# Altium integrated library Microchip DSC 16-Bit dsPIC30F.IntLib: 267 symbols (part 3 of 12)
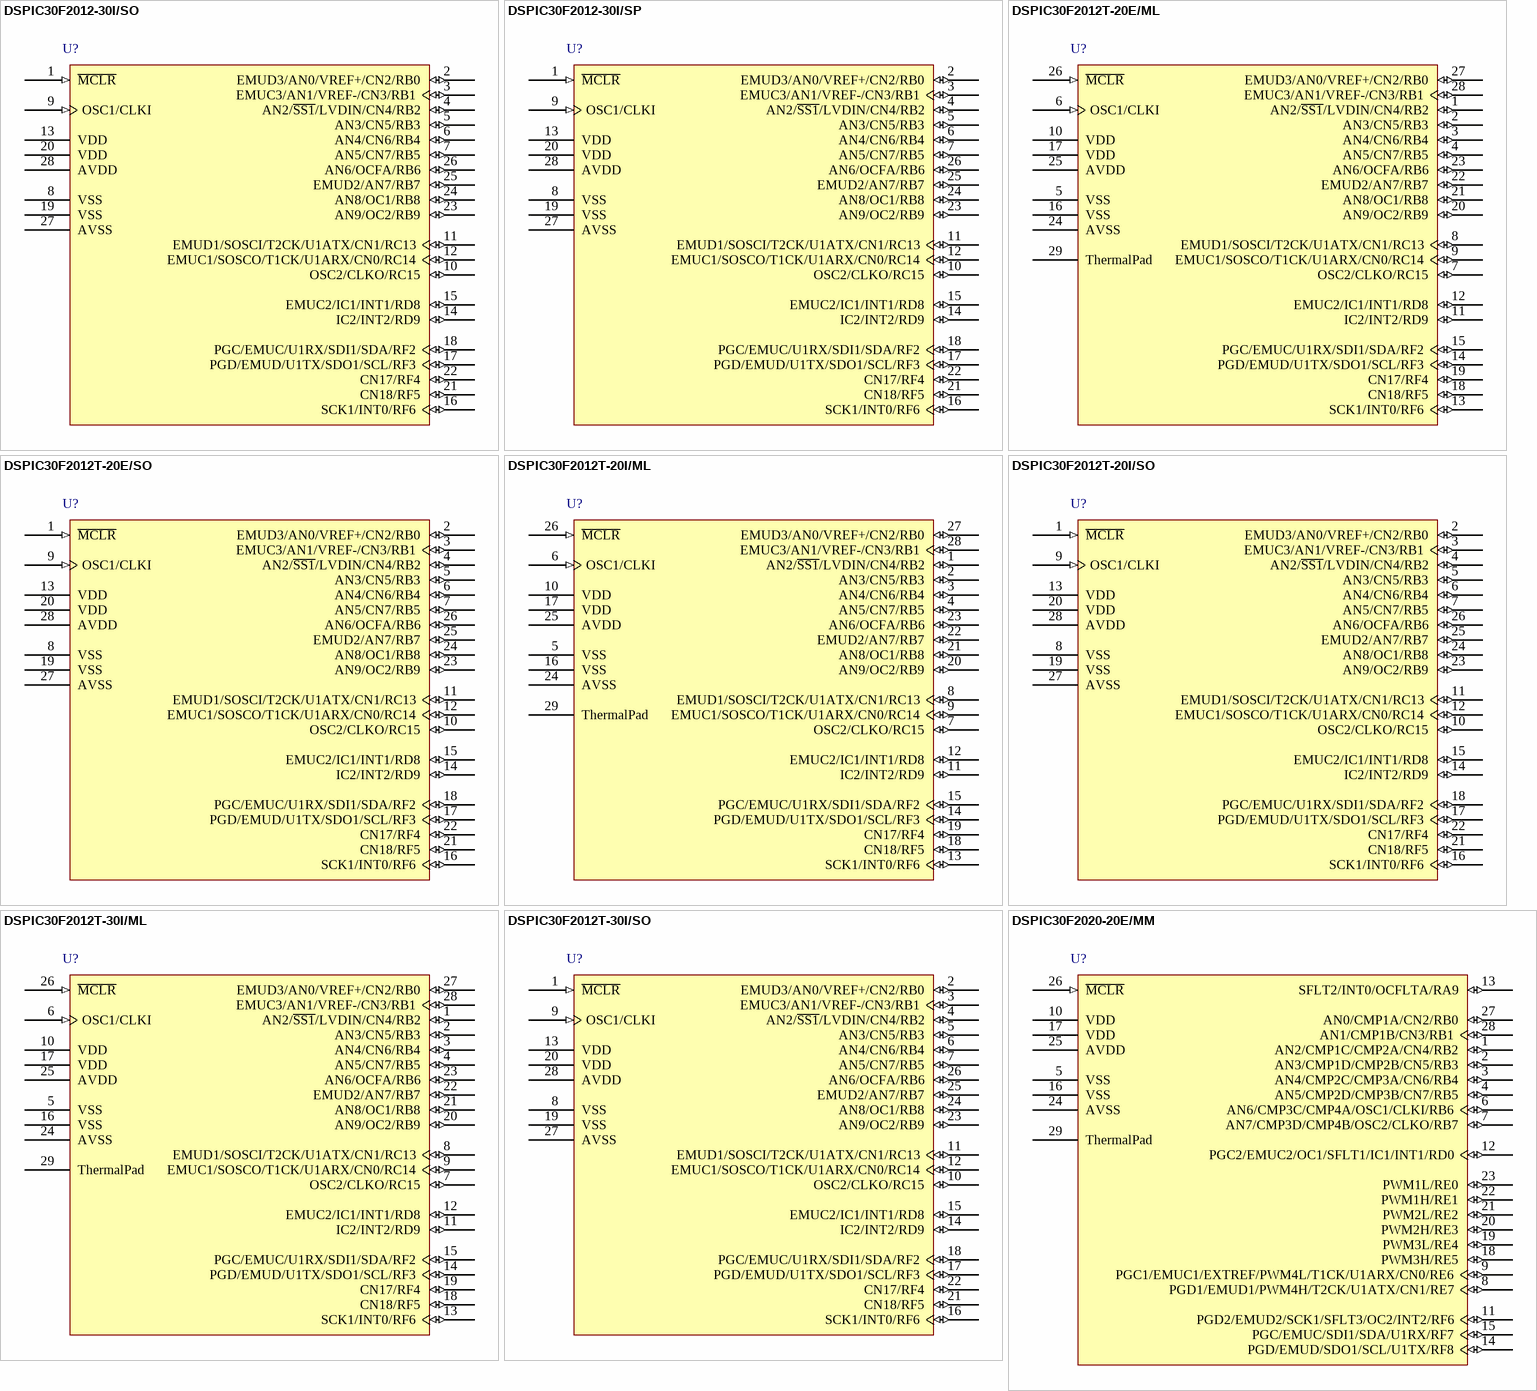
[diagram p45: symbols DSPIC30F2012-30I/SO to DSPIC30F2020-20E/MM]

## DSPIC30F2020-20E/MM
designator U?
High-Performance 16-bit Digital Signal Controller with Switch Mode Power Supply, 12 KB Flash, 512 Byte SRAM, 28-Pin QFN, Extended High Temperature; Published: 29-Jan-2009; DatasheetVersion: revC, Nov-2006; PackageVersion: revBB, Aug-2009; PackageReference: QFNS-MM28; Publisher: Altium Limited; PackageDescription: 28-Lead Plastic Quad Flat, No Lead Package (MM) - 6x6x0.9 mm Body [QFN-S] with 0.40 mm Contact Length; Supplier 1: Digi-Key; Supplier Part Number 1: DSPIC30F2020-20E/MM-ND; ComponentLink1Description: Datasheet; ComponentLink1URL: http://ww1.microchip.com/downloads/en/DeviceDoc/70178C.pdf; ComponentLink2Description: Packaging Specification; ComponentLink2URL: http://www.microchip.com/stellent/groups/techpub_sg/documents/packagingspec/en012702.pdf; ComponentLink3Description: Microchip.com Home; ComponentLink3URL: http://www.microchip.com/
footprint QFNS-MM28_N (QFN, 28-Leads, Body 6x6 mm, Pitch 0.65mm, IPC Medium Density)
footprint QFNS-MM28_L (QFN, 28-Leads, Body 6x6 mm, Pitch 0.65mm, IPC High Density)
footprint QFNS-MM28_M (QFN, 28-Leads, Body 6x6 mm, Pitch 0.65mm, IPC Low Density)
pins: 1 AN2/CMP1C/CMP2A/CN4/RB2 (io), 2 AN3/CMP1D/CMP2B/CN5/RB3 (io), 3 AN4/CMP2C/CMP3A/CN6/RB4 (io), 4 AN5/CMP2D/CMP3B/CN7/RB5 (io), 5 VSS (power), 6 AN6/CMP3C/CMP4A/OSC1/CLKI/RB6 (io), 7 AN7/CMP3D/CMP4B/OSC2/CLKO/RB7 (io), 8 PGD1/EMUD1/PWM4H/T2CK/U1ATX/CN1/RE7 (io), 9 PGC1/EMUC1/EXTREF/PWM4L/T1CK/U1ARX/CN0/RE6 (io), 10 VDD (power), 11 PGD2/EMUD2/SCK1/SFLT3/OC2/INT2/RF6 (io), 12 PGC2/EMUC2/OC1/SFLT1/IC1/INT1/RD0 (io), 13 SFLT2/INT0/OCFLTA/RA9 (io), 14 PGD/EMUD/SDO1/SCL/U1TX/RF8 (io), 15 PGC/EMUC/SDI1/SDA/U1RX/RF7 (io), 16 VSS (power), 17 VDD (power), 18 PWM3H/RE5 (io), 19 PWM3L/RE4 (io), 20 PWM2H/RE3 (io), 21 PWM2L/RE2 (io), 22 PWM1H/RE1 (io), 23 PWM1L/RE0 (io), 24 AVSS (power), 25 AVDD (power), 26 ~{MCLR} (in), 27 AN0/CMP1A/CN2/RB0 (io), 28 AN1/CMP1B/CN3/RB1 (io), 29 ThermalPad

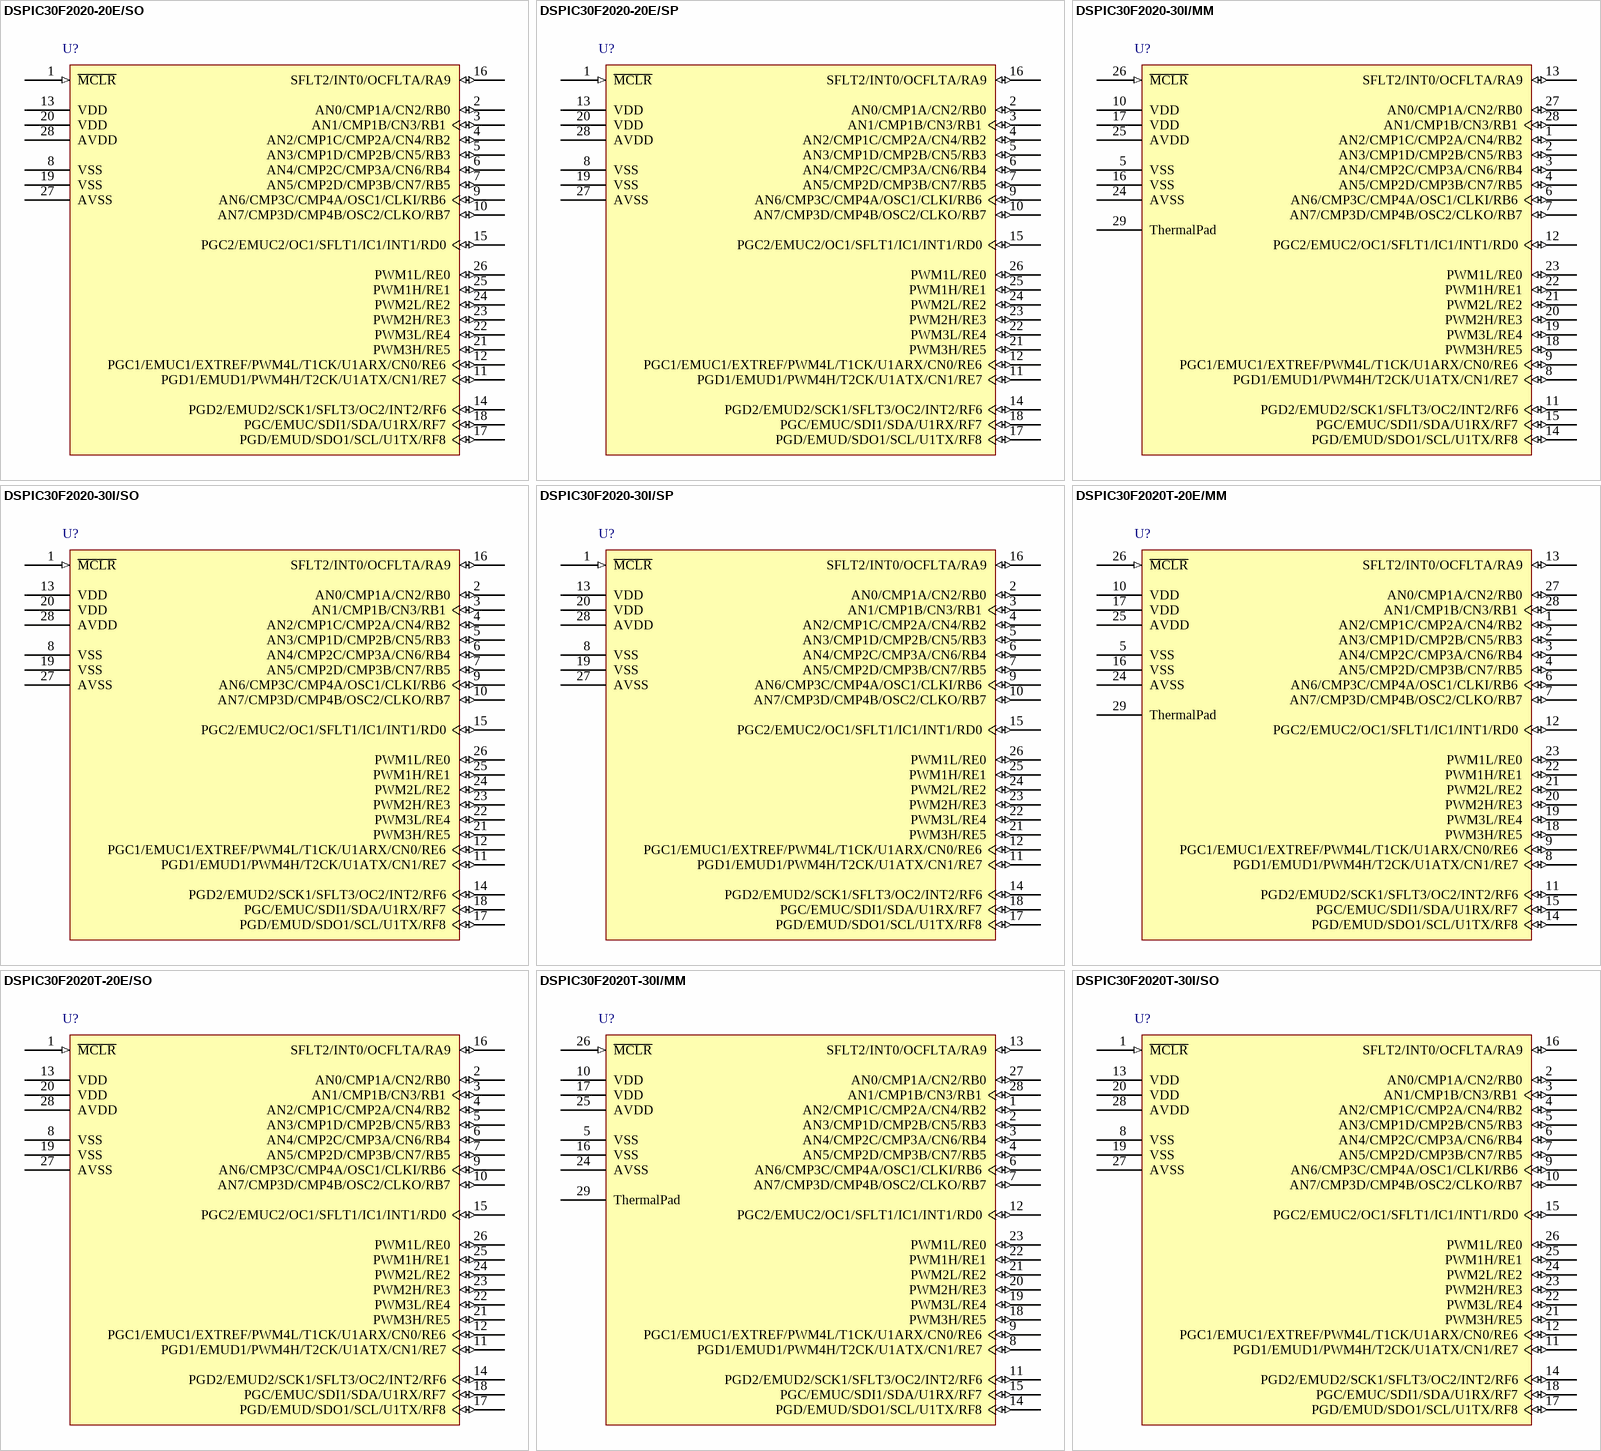
[diagram p6: symbols DSPIC30F2020-20E/SO to DSPIC30F2020T-30I/SO]

## DSPIC30F2020-20E/SO
designator U?
High-Performance 16-bit Digital Signal Controller with Switch Mode Power Supply, 12 KB Flash, 512 Byte SRAM, 28-Pin SOIC, Extended High Temperature; Published: 29-Jan-2009; DatasheetVersion: revC, Nov-2006; PackageVersion: revBB, Aug-2009; PackageReference: SOIC-SO28; Publisher: Altium Limited; PackageDescription: 28-Lead Plastic Small Outline (SO) - Wide 7.50mm Body [SOIC]; Supplier 1: Digi-Key; Supplier Part Number 1: DSPIC30F2020-20E/SO-ND; Supplier 2: Farnell; Supplier Part Number 2: 1818695; Code_JEDEC: MS-013; ComponentLink1Description: Datasheet; ComponentLink1URL: http://ww1.microchip.com/downloads/en/DeviceDoc/70178C.pdf; ComponentLink2Description: Packaging Specification; ComponentLink2URL: http://www.microchip.com/stellent/groups/techpub_sg/documents/packagingspec/en012702.pdf; ComponentLink3Description: Microchip.com Home; ComponentLink3URL: http://www.microchip.com/
footprint SOIC-SO28_N (SOIC, 28-Leads, Body 17.9x7.5mm, Pitch 1.27mm, IPC Medium Density)
footprint SOIC-SO28_L (SOIC, 28-Leads, Body 17.9x7.5mm, Pitch 1.27mm, IPC High Density)
footprint SOIC-SO28_M (SOIC, 28-Leads, Body 17.9x7.5mm, Pitch 1.27mm, IPC Low Density)
pins: 1 ~{MCLR} (in), 2 AN0/CMP1A/CN2/RB0 (io), 3 AN1/CMP1B/CN3/RB1 (io), 4 AN2/CMP1C/CMP2A/CN4/RB2 (io), 5 AN3/CMP1D/CMP2B/CN5/RB3 (io), 6 AN4/CMP2C/CMP3A/CN6/RB4 (io), 7 AN5/CMP2D/CMP3B/CN7/RB5 (io), 8 VSS (power), 9 AN6/CMP3C/CMP4A/OSC1/CLKI/RB6 (io), 10 AN7/CMP3D/CMP4B/OSC2/CLKO/RB7 (io), 11 PGD1/EMUD1/PWM4H/T2CK/U1ATX/CN1/RE7 (io), 12 PGC1/EMUC1/EXTREF/PWM4L/T1CK/U1ARX/CN0/RE6 (io), 13 VDD (power), 14 PGD2/EMUD2/SCK1/SFLT3/OC2/INT2/RF6 (io), 15 PGC2/EMUC2/OC1/SFLT1/IC1/INT1/RD0 (io), 16 SFLT2/INT0/OCFLTA/RA9 (io), 17 PGD/EMUD/SDO1/SCL/U1TX/RF8 (io), 18 PGC/EMUC/SDI1/SDA/U1RX/RF7 (io), 19 VSS (power), 20 VDD (power), 21 PWM3H/RE5 (io), 22 PWM3L/RE4 (io), 23 PWM2H/RE3 (io), 24 PWM2L/RE2 (io), 25 PWM1H/RE1 (io), 26 PWM1L/RE0 (io), 27 AVSS (power), 28 AVDD (power)

## DSPIC30F2020-20E/SP
designator U?
High-Performance 16-bit Digital Signal Controller with Switch Mode Power Supply, 12 KB Flash, 512 Byte SRAM, 28-Pin SPDIP, Extended High Temperature; Published: 29-Jan-2009; DatasheetVersion: revC, Nov-2006; PackageVersion: revBB, Aug-2009; PackageReference: SPDIP300-SP28; Publisher: Altium Limited; PackageDescription: 28-Lead Skinny Plastic Dual In-Line (SP) - 300 mil Body [SPDIP]; Supplier 1: Digi-Key; Supplier Part Number 1: DSPIC30F2020-20E/SP-ND; Supplier 2: Farnell; Supplier Part Number 2: 1531996; ComponentLink1Description: Datasheet; ComponentLink1URL: http://ww1.microchip.com/downloads/en/DeviceDoc/70178C.pdf; ComponentLink2Description: Packaging Specification; ComponentLink2URL: http://www.microchip.com/stellent/groups/techpub_sg/documents/packagingspec/en012702.pdf; ComponentLink3Description: Microchip.com Home; ComponentLink3URL: http://www.microchip.com/
footprint SPDIP300-SP28 (DIP, 28-Leads, Row Spacing 7.62mm, Pitch 2.54mm, Body 34.9x6.8mm)
pins: 1 ~{MCLR} (in), 2 AN0/CMP1A/CN2/RB0 (io), 3 AN1/CMP1B/CN3/RB1 (io), 4 AN2/CMP1C/CMP2A/CN4/RB2 (io), 5 AN3/CMP1D/CMP2B/CN5/RB3 (io), 6 AN4/CMP2C/CMP3A/CN6/RB4 (io), 7 AN5/CMP2D/CMP3B/CN7/RB5 (io), 8 VSS (power), 9 AN6/CMP3C/CMP4A/OSC1/CLKI/RB6 (io), 10 AN7/CMP3D/CMP4B/OSC2/CLKO/RB7 (io), 11 PGD1/EMUD1/PWM4H/T2CK/U1ATX/CN1/RE7 (io), 12 PGC1/EMUC1/EXTREF/PWM4L/T1CK/U1ARX/CN0/RE6 (io), 13 VDD (power), 14 PGD2/EMUD2/SCK1/SFLT3/OC2/INT2/RF6 (io), 15 PGC2/EMUC2/OC1/SFLT1/IC1/INT1/RD0 (io), 16 SFLT2/INT0/OCFLTA/RA9 (io), 17 PGD/EMUD/SDO1/SCL/U1TX/RF8 (io), 18 PGC/EMUC/SDI1/SDA/U1RX/RF7 (io), 19 VSS (power), 20 VDD (power), 21 PWM3H/RE5 (io), 22 PWM3L/RE4 (io), 23 PWM2H/RE3 (io), 24 PWM2L/RE2 (io), 25 PWM1H/RE1 (io), 26 PWM1L/RE0 (io), 27 AVSS (power), 28 AVDD (power)

## DSPIC30F2020-30I/MM
designator U?
High-Performance 16-bit Digital Signal Controller with Switch Mode Power Supply, 12 KB Flash, 512 Byte SRAM, 28-Pin QFN, Industrial Temperature; Published: 29-Jan-2009; DatasheetVersion: revC, Nov-2006; PackageVersion: revBB, Aug-2009; PackageReference: QFNS-MM28; Publisher: Altium Limited; PackageDescription: 28-Lead Plastic Quad Flat, No Lead Package (MM) - 6x6x0.9 mm Body [QFN-S] with 0.40 mm Contact Length; Supplier 1: Digi-Key; Supplier Part Number 1: DSPIC30F2020-30I/MM-ND; ComponentLink1Description: Datasheet; ComponentLink1URL: http://ww1.microchip.com/downloads/en/DeviceDoc/70178C.pdf; ComponentLink2Description: Packaging Specification; ComponentLink2URL: http://www.microchip.com/stellent/groups/techpub_sg/documents/packagingspec/en012702.pdf; ComponentLink3Description: Microchip.com Home; ComponentLink3URL: http://www.microchip.com/
footprint QFNS-MM28_N (QFN, 28-Leads, Body 6x6 mm, Pitch 0.65mm, IPC Medium Density)
footprint QFNS-MM28_L (QFN, 28-Leads, Body 6x6 mm, Pitch 0.65mm, IPC High Density)
footprint QFNS-MM28_M (QFN, 28-Leads, Body 6x6 mm, Pitch 0.65mm, IPC Low Density)
pins: 1 AN2/CMP1C/CMP2A/CN4/RB2 (io), 2 AN3/CMP1D/CMP2B/CN5/RB3 (io), 3 AN4/CMP2C/CMP3A/CN6/RB4 (io), 4 AN5/CMP2D/CMP3B/CN7/RB5 (io), 5 VSS (power), 6 AN6/CMP3C/CMP4A/OSC1/CLKI/RB6 (io), 7 AN7/CMP3D/CMP4B/OSC2/CLKO/RB7 (io), 8 PGD1/EMUD1/PWM4H/T2CK/U1ATX/CN1/RE7 (io), 9 PGC1/EMUC1/EXTREF/PWM4L/T1CK/U1ARX/CN0/RE6 (io), 10 VDD (power), 11 PGD2/EMUD2/SCK1/SFLT3/OC2/INT2/RF6 (io), 12 PGC2/EMUC2/OC1/SFLT1/IC1/INT1/RD0 (io), 13 SFLT2/INT0/OCFLTA/RA9 (io), 14 PGD/EMUD/SDO1/SCL/U1TX/RF8 (io), 15 PGC/EMUC/SDI1/SDA/U1RX/RF7 (io), 16 VSS (power), 17 VDD (power), 18 PWM3H/RE5 (io), 19 PWM3L/RE4 (io), 20 PWM2H/RE3 (io), 21 PWM2L/RE2 (io), 22 PWM1H/RE1 (io), 23 PWM1L/RE0 (io), 24 AVSS (power), 25 AVDD (power), 26 ~{MCLR} (in), 27 AN0/CMP1A/CN2/RB0 (io), 28 AN1/CMP1B/CN3/RB1 (io), 29 ThermalPad

## DSPIC30F2020-30I/SO
designator U?
High-Performance 16-bit Digital Signal Controller with Switch Mode Power Supply, 12 KB Flash, 512 Byte SRAM, 28-Pin SOIC, Industrial Temperature; Published: 29-Jan-2009; DatasheetVersion: revC, Nov-2006; PackageVersion: revBB, Aug-2009; PackageReference: SOIC-SO28; Publisher: Altium Limited; PackageDescription: 28-Lead Plastic Small Outline (SO) - Wide 7.50mm Body [SOIC]; Supplier 1: Digi-Key; Supplier Part Number 1: DSPIC30F2020-30I/SO-ND; Supplier 2: Farnell; Supplier Part Number 2: 1332026; Code_JEDEC: MS-013; ComponentLink1Description: Datasheet; ComponentLink1URL: http://ww1.microchip.com/downloads/en/DeviceDoc/70178C.pdf; ComponentLink2Description: Packaging Specification; ComponentLink2URL: http://www.microchip.com/stellent/groups/techpub_sg/documents/packagingspec/en012702.pdf; ComponentLink3Description: Microchip.com Home; ComponentLink3URL: http://www.microchip.com/
footprint SOIC-SO28_N (SOIC, 28-Leads, Body 17.9x7.5mm, Pitch 1.27mm, IPC Medium Density)
footprint SOIC-SO28_L (SOIC, 28-Leads, Body 17.9x7.5mm, Pitch 1.27mm, IPC High Density)
footprint SOIC-SO28_M (SOIC, 28-Leads, Body 17.9x7.5mm, Pitch 1.27mm, IPC Low Density)
pins: 1 ~{MCLR} (in), 2 AN0/CMP1A/CN2/RB0 (io), 3 AN1/CMP1B/CN3/RB1 (io), 4 AN2/CMP1C/CMP2A/CN4/RB2 (io), 5 AN3/CMP1D/CMP2B/CN5/RB3 (io), 6 AN4/CMP2C/CMP3A/CN6/RB4 (io), 7 AN5/CMP2D/CMP3B/CN7/RB5 (io), 8 VSS (power), 9 AN6/CMP3C/CMP4A/OSC1/CLKI/RB6 (io), 10 AN7/CMP3D/CMP4B/OSC2/CLKO/RB7 (io), 11 PGD1/EMUD1/PWM4H/T2CK/U1ATX/CN1/RE7 (io), 12 PGC1/EMUC1/EXTREF/PWM4L/T1CK/U1ARX/CN0/RE6 (io), 13 VDD (power), 14 PGD2/EMUD2/SCK1/SFLT3/OC2/INT2/RF6 (io), 15 PGC2/EMUC2/OC1/SFLT1/IC1/INT1/RD0 (io), 16 SFLT2/INT0/OCFLTA/RA9 (io), 17 PGD/EMUD/SDO1/SCL/U1TX/RF8 (io), 18 PGC/EMUC/SDI1/SDA/U1RX/RF7 (io), 19 VSS (power), 20 VDD (power), 21 PWM3H/RE5 (io), 22 PWM3L/RE4 (io), 23 PWM2H/RE3 (io), 24 PWM2L/RE2 (io), 25 PWM1H/RE1 (io), 26 PWM1L/RE0 (io), 27 AVSS (power), 28 AVDD (power)

## DSPIC30F2020-30I/SP
designator U?
High-Performance 16-bit Digital Signal Controller with Switch Mode Power Supply, 12 KB Flash, 512 Byte SRAM, 28-Pin SPDIP, Industrial Temperature; Published: 29-Jan-2009; DatasheetVersion: revC, Nov-2006; PackageVersion: revBB, Aug-2009; PackageReference: SPDIP300-SP28; Publisher: Altium Limited; PackageDescription: 28-Lead Skinny Plastic Dual In-Line (SP) - 300 mil Body [SPDIP]; Supplier 1: Digi-Key; Supplier Part Number 1: DSPIC30F2020-30I/SP-ND; Supplier 2: Farnell; Supplier Part Number 2: 1297281; ComponentLink1Description: Datasheet; ComponentLink1URL: http://ww1.microchip.com/downloads/en/DeviceDoc/70178C.pdf; ComponentLink2Description: Packaging Specification; ComponentLink2URL: http://www.microchip.com/stellent/groups/techpub_sg/documents/packagingspec/en012702.pdf; ComponentLink3Description: Microchip.com Home; ComponentLink3URL: http://www.microchip.com/
footprint SPDIP300-SP28 (DIP, 28-Leads, Row Spacing 7.62mm, Pitch 2.54mm, Body 34.9x6.8mm)
pins: 1 ~{MCLR} (in), 2 AN0/CMP1A/CN2/RB0 (io), 3 AN1/CMP1B/CN3/RB1 (io), 4 AN2/CMP1C/CMP2A/CN4/RB2 (io), 5 AN3/CMP1D/CMP2B/CN5/RB3 (io), 6 AN4/CMP2C/CMP3A/CN6/RB4 (io), 7 AN5/CMP2D/CMP3B/CN7/RB5 (io), 8 VSS (power), 9 AN6/CMP3C/CMP4A/OSC1/CLKI/RB6 (io), 10 AN7/CMP3D/CMP4B/OSC2/CLKO/RB7 (io), 11 PGD1/EMUD1/PWM4H/T2CK/U1ATX/CN1/RE7 (io), 12 PGC1/EMUC1/EXTREF/PWM4L/T1CK/U1ARX/CN0/RE6 (io), 13 VDD (power), 14 PGD2/EMUD2/SCK1/SFLT3/OC2/INT2/RF6 (io), 15 PGC2/EMUC2/OC1/SFLT1/IC1/INT1/RD0 (io), 16 SFLT2/INT0/OCFLTA/RA9 (io), 17 PGD/EMUD/SDO1/SCL/U1TX/RF8 (io), 18 PGC/EMUC/SDI1/SDA/U1RX/RF7 (io), 19 VSS (power), 20 VDD (power), 21 PWM3H/RE5 (io), 22 PWM3L/RE4 (io), 23 PWM2H/RE3 (io), 24 PWM2L/RE2 (io), 25 PWM1H/RE1 (io), 26 PWM1L/RE0 (io), 27 AVSS (power), 28 AVDD (power)

## DSPIC30F2020T-20E/MM
designator U?
High-Performance 16-bit Digital Signal Controller with Switch Mode Power Supply, 12 KB Flash, 512 Byte SRAM, 28-Pin QFN, Extended High Temperature, Tape and Reel; Published: 29-Jan-2009; DatasheetVersion: revC, Nov-2006; PackageVersion: revBB, Aug-2009; PackageReference: QFNS-MM28; Publisher: Altium Limited; PackageDescription: 28-Lead Plastic Quad Flat, No Lead Package (MM) - 6x6x0.9 mm Body [QFN-S] with 0.40 mm Contact Length; ComponentLink1Description: Datasheet; ComponentLink1URL: http://ww1.microchip.com/downloads/en/DeviceDoc/70178C.pdf; ComponentLink2Description: Packaging Specification; ComponentLink2URL: http://www.microchip.com/stellent/groups/techpub_sg/documents/packagingspec/en012702.pdf; ComponentLink3Description: Microchip.com Home; ComponentLink3URL: http://www.microchip.com/
footprint QFNS-MM28_N (QFN, 28-Leads, Body 6x6 mm, Pitch 0.65mm, IPC Medium Density)
footprint QFNS-MM28_L (QFN, 28-Leads, Body 6x6 mm, Pitch 0.65mm, IPC High Density)
footprint QFNS-MM28_M (QFN, 28-Leads, Body 6x6 mm, Pitch 0.65mm, IPC Low Density)
pins: 1 AN2/CMP1C/CMP2A/CN4/RB2 (io), 2 AN3/CMP1D/CMP2B/CN5/RB3 (io), 3 AN4/CMP2C/CMP3A/CN6/RB4 (io), 4 AN5/CMP2D/CMP3B/CN7/RB5 (io), 5 VSS (power), 6 AN6/CMP3C/CMP4A/OSC1/CLKI/RB6 (io), 7 AN7/CMP3D/CMP4B/OSC2/CLKO/RB7 (io), 8 PGD1/EMUD1/PWM4H/T2CK/U1ATX/CN1/RE7 (io), 9 PGC1/EMUC1/EXTREF/PWM4L/T1CK/U1ARX/CN0/RE6 (io), 10 VDD (power), 11 PGD2/EMUD2/SCK1/SFLT3/OC2/INT2/RF6 (io), 12 PGC2/EMUC2/OC1/SFLT1/IC1/INT1/RD0 (io), 13 SFLT2/INT0/OCFLTA/RA9 (io), 14 PGD/EMUD/SDO1/SCL/U1TX/RF8 (io), 15 PGC/EMUC/SDI1/SDA/U1RX/RF7 (io), 16 VSS (power), 17 VDD (power), 18 PWM3H/RE5 (io), 19 PWM3L/RE4 (io), 20 PWM2H/RE3 (io), 21 PWM2L/RE2 (io), 22 PWM1H/RE1 (io), 23 PWM1L/RE0 (io), 24 AVSS (power), 25 AVDD (power), 26 ~{MCLR} (in), 27 AN0/CMP1A/CN2/RB0 (io), 28 AN1/CMP1B/CN3/RB1 (io), 29 ThermalPad

## DSPIC30F2020T-20E/SO
designator U?
High-Performance 16-bit Digital Signal Controller with Switch Mode Power Supply, 12 KB Flash, 512 Byte SRAM, 28-Pin SOIC, Extended High Temperature, Tape and Reel; Published: 29-Jan-2009; DatasheetVersion: revC, Nov-2006; PackageVersion: revBB, Aug-2009; PackageReference: SOIC-SO28; Publisher: Altium Limited; PackageDescription: 28-Lead Plastic Small Outline (SO) - Wide 7.50mm Body [SOIC]; Code_JEDEC: MS-013; ComponentLink1Description: Datasheet; ComponentLink1URL: http://ww1.microchip.com/downloads/en/DeviceDoc/70178C.pdf; ComponentLink2Description: Packaging Specification; ComponentLink2URL: http://www.microchip.com/stellent/groups/techpub_sg/documents/packagingspec/en012702.pdf; ComponentLink3Description: Microchip.com Home; ComponentLink3URL: http://www.microchip.com/
footprint SOIC-SO28_N (SOIC, 28-Leads, Body 17.9x7.5mm, Pitch 1.27mm, IPC Medium Density)
footprint SOIC-SO28_L (SOIC, 28-Leads, Body 17.9x7.5mm, Pitch 1.27mm, IPC High Density)
footprint SOIC-SO28_M (SOIC, 28-Leads, Body 17.9x7.5mm, Pitch 1.27mm, IPC Low Density)
pins: 1 ~{MCLR} (in), 2 AN0/CMP1A/CN2/RB0 (io), 3 AN1/CMP1B/CN3/RB1 (io), 4 AN2/CMP1C/CMP2A/CN4/RB2 (io), 5 AN3/CMP1D/CMP2B/CN5/RB3 (io), 6 AN4/CMP2C/CMP3A/CN6/RB4 (io), 7 AN5/CMP2D/CMP3B/CN7/RB5 (io), 8 VSS (power), 9 AN6/CMP3C/CMP4A/OSC1/CLKI/RB6 (io), 10 AN7/CMP3D/CMP4B/OSC2/CLKO/RB7 (io), 11 PGD1/EMUD1/PWM4H/T2CK/U1ATX/CN1/RE7 (io), 12 PGC1/EMUC1/EXTREF/PWM4L/T1CK/U1ARX/CN0/RE6 (io), 13 VDD (power), 14 PGD2/EMUD2/SCK1/SFLT3/OC2/INT2/RF6 (io), 15 PGC2/EMUC2/OC1/SFLT1/IC1/INT1/RD0 (io), 16 SFLT2/INT0/OCFLTA/RA9 (io), 17 PGD/EMUD/SDO1/SCL/U1TX/RF8 (io), 18 PGC/EMUC/SDI1/SDA/U1RX/RF7 (io), 19 VSS (power), 20 VDD (power), 21 PWM3H/RE5 (io), 22 PWM3L/RE4 (io), 23 PWM2H/RE3 (io), 24 PWM2L/RE2 (io), 25 PWM1H/RE1 (io), 26 PWM1L/RE0 (io), 27 AVSS (power), 28 AVDD (power)

## DSPIC30F2020T-30I/MM
designator U?
High-Performance 16-bit Digital Signal Controller with Switch Mode Power Supply, 12 KB Flash, 512 Byte SRAM, 28-Pin QFN, Industrial Temperature, Tape and Reel; Published: 29-Jan-2009; DatasheetVersion: revC, Nov-2006; PackageVersion: revBB, Aug-2009; PackageReference: QFNS-MM28; Publisher: Altium Limited; PackageDescription: 28-Lead Plastic Quad Flat, No Lead Package (MM) - 6x6x0.9 mm Body [QFN-S] with 0.40 mm Contact Length; Supplier 1: Digi-Key; Supplier Part Number 1: DSPIC30F2020T-30I/MMTR-ND; ComponentLink1Description: Datasheet; ComponentLink1URL: http://ww1.microchip.com/downloads/en/DeviceDoc/70178C.pdf; ComponentLink2Description: Packaging Specification; ComponentLink2URL: http://www.microchip.com/stellent/groups/techpub_sg/documents/packagingspec/en012702.pdf; ComponentLink3Description: Microchip.com Home; ComponentLink3URL: http://www.microchip.com/
footprint QFNS-MM28_N (QFN, 28-Leads, Body 6x6 mm, Pitch 0.65mm, IPC Medium Density)
footprint QFNS-MM28_L (QFN, 28-Leads, Body 6x6 mm, Pitch 0.65mm, IPC High Density)
footprint QFNS-MM28_M (QFN, 28-Leads, Body 6x6 mm, Pitch 0.65mm, IPC Low Density)
pins: 1 AN2/CMP1C/CMP2A/CN4/RB2 (io), 2 AN3/CMP1D/CMP2B/CN5/RB3 (io), 3 AN4/CMP2C/CMP3A/CN6/RB4 (io), 4 AN5/CMP2D/CMP3B/CN7/RB5 (io), 5 VSS (power), 6 AN6/CMP3C/CMP4A/OSC1/CLKI/RB6 (io), 7 AN7/CMP3D/CMP4B/OSC2/CLKO/RB7 (io), 8 PGD1/EMUD1/PWM4H/T2CK/U1ATX/CN1/RE7 (io), 9 PGC1/EMUC1/EXTREF/PWM4L/T1CK/U1ARX/CN0/RE6 (io), 10 VDD (power), 11 PGD2/EMUD2/SCK1/SFLT3/OC2/INT2/RF6 (io), 12 PGC2/EMUC2/OC1/SFLT1/IC1/INT1/RD0 (io), 13 SFLT2/INT0/OCFLTA/RA9 (io), 14 PGD/EMUD/SDO1/SCL/U1TX/RF8 (io), 15 PGC/EMUC/SDI1/SDA/U1RX/RF7 (io), 16 VSS (power), 17 VDD (power), 18 PWM3H/RE5 (io), 19 PWM3L/RE4 (io), 20 PWM2H/RE3 (io), 21 PWM2L/RE2 (io), 22 PWM1H/RE1 (io), 23 PWM1L/RE0 (io), 24 AVSS (power), 25 AVDD (power), 26 ~{MCLR} (in), 27 AN0/CMP1A/CN2/RB0 (io), 28 AN1/CMP1B/CN3/RB1 (io), 29 ThermalPad

## DSPIC30F2020T-30I/SO
designator U?
High-Performance 16-bit Digital Signal Controller with Switch Mode Power Supply, 12 KB Flash, 512 Byte SRAM, 28-Pin SOIC, Industrial Temperature, Tape and Reel; Published: 29-Jan-2009; DatasheetVersion: revC, Nov-2006; PackageVersion: revBB, Aug-2009; PackageReference: SOIC-SO28; Publisher: Altium Limited; PackageDescription: 28-Lead Plastic Small Outline (SO) - Wide 7.50mm Body [SOIC]; Supplier 1: Digi-Key; Supplier Part Number 1: DSPIC30F2020T-30I/SOTR-ND; Supplier 2: Digi-Key; Supplier Part Number 2: DSPIC30F2020T-30I/SOCT-ND; Supplier 3: Digi-Key; Supplier Part Number 3: DSPIC30F2020T-30I/SODKR-ND; Code_JEDEC: MS-013; ComponentLink1Description: Datasheet; ComponentLink1URL: http://ww1.microchip.com/downloads/en/DeviceDoc/70178C.pdf; ComponentLink2Description: Packaging Specification; ComponentLink2URL: http://www.microchip.com/stellent/groups/techpub_sg/documents/packagingspec/en012702.pdf; ComponentLink3Description: Microchip.com Home; ComponentLink3URL: http://www.microchip.com/
footprint SOIC-SO28_N (SOIC, 28-Leads, Body 17.9x7.5mm, Pitch 1.27mm, IPC Medium Density)
footprint SOIC-SO28_L (SOIC, 28-Leads, Body 17.9x7.5mm, Pitch 1.27mm, IPC High Density)
footprint SOIC-SO28_M (SOIC, 28-Leads, Body 17.9x7.5mm, Pitch 1.27mm, IPC Low Density)
pins: 1 ~{MCLR} (in), 2 AN0/CMP1A/CN2/RB0 (io), 3 AN1/CMP1B/CN3/RB1 (io), 4 AN2/CMP1C/CMP2A/CN4/RB2 (io), 5 AN3/CMP1D/CMP2B/CN5/RB3 (io), 6 AN4/CMP2C/CMP3A/CN6/RB4 (io), 7 AN5/CMP2D/CMP3B/CN7/RB5 (io), 8 VSS (power), 9 AN6/CMP3C/CMP4A/OSC1/CLKI/RB6 (io), 10 AN7/CMP3D/CMP4B/OSC2/CLKO/RB7 (io), 11 PGD1/EMUD1/PWM4H/T2CK/U1ATX/CN1/RE7 (io), 12 PGC1/EMUC1/EXTREF/PWM4L/T1CK/U1ARX/CN0/RE6 (io), 13 VDD (power), 14 PGD2/EMUD2/SCK1/SFLT3/OC2/INT2/RF6 (io), 15 PGC2/EMUC2/OC1/SFLT1/IC1/INT1/RD0 (io), 16 SFLT2/INT0/OCFLTA/RA9 (io), 17 PGD/EMUD/SDO1/SCL/U1TX/RF8 (io), 18 PGC/EMUC/SDI1/SDA/U1RX/RF7 (io), 19 VSS (power), 20 VDD (power), 21 PWM3H/RE5 (io), 22 PWM3L/RE4 (io), 23 PWM2H/RE3 (io), 24 PWM2L/RE2 (io), 25 PWM1H/RE1 (io), 26 PWM1L/RE0 (io), 27 AVSS (power), 28 AVDD (power)

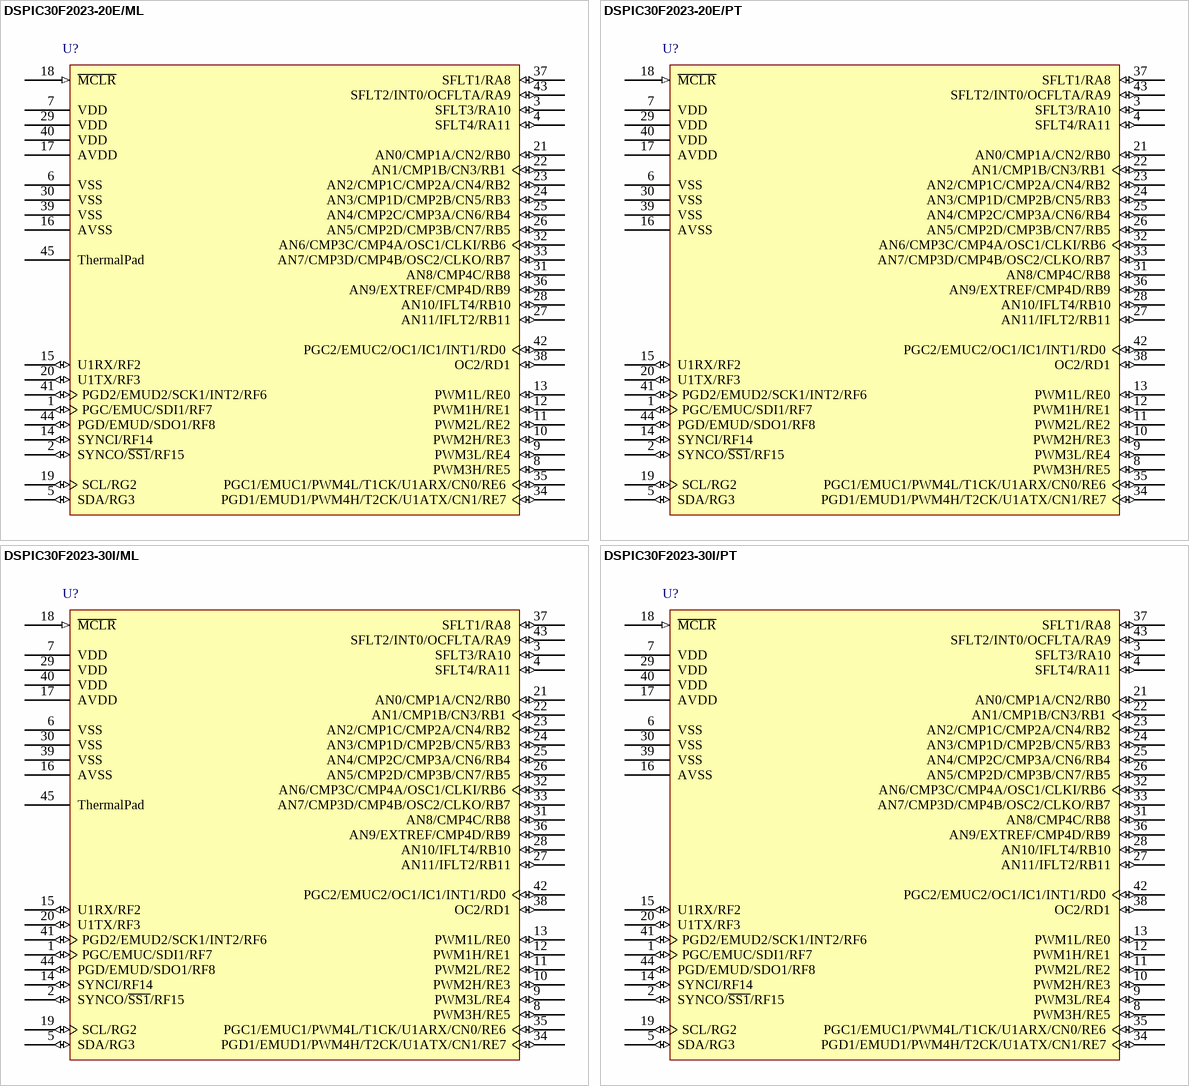
[diagram p7: symbols DSPIC30F2023-20E/ML to DSPIC30F2023-30I/PT]

## DSPIC30F2023-20E/ML
designator U?
High-Performance 16-bit Digital Signal Controller with Switch Mode Power Supply, 12 KB Flash, 512 Byte SRAM, 44-Pin QFN, Extended High Temperature; Published: 29-Jan-2009; DatasheetVersion: revC, Nov-2006; PackageVersion: revBB, Aug-2009; PackageReference: QFN-ML44; Publisher: Altium Limited; PackageDescription: 44-Lead Plastic Quad Flat, No Lead Package (ML) - 8x8 mm Body [QFN]; Supplier 1: Digi-Key; Supplier Part Number 1: DSPIC30F2023-20E/ML-ND; Code_JEDEC: MO-220; Code_IPC: QFN65P800X800-44V2; ComponentLink1Description: Datasheet; ComponentLink1URL: http://ww1.microchip.com/downloads/en/DeviceDoc/70178C.pdf; ComponentLink2Description: Packaging Specification; ComponentLink2URL: http://www.microchip.com/stellent/groups/techpub_sg/documents/packagingspec/en012702.pdf; ComponentLink3Description: Microchip.com Home; ComponentLink3URL: http://www.microchip.com/
footprint QFN-ML44_N (QFN, 44-Leads, Body 8x8 mm, Pitch 0.65mm, IPC Medium Density)
footprint QFN-ML44_L (QFN, 44-Leads, Body 8x8 mm, Pitch 0.65mm, IPC High Density)
footprint QFN-ML44_M (QFN, 44-Leads, Body 8x8 mm, Pitch 0.65mm, IPC Low Density)
pins: 1 PGC/EMUC/SDI1/RF7 (io), 2 SYNCO/~{SS1}/RF15 (io), 3 SFLT3/RA10 (io), 4 SFLT4/RA11 (io), 5 SDA/RG3 (io), 6 VSS (power), 7 VDD (power), 8 PWM3H/RE5 (io), 9 PWM3L/RE4 (io), 10 PWM2H/RE3 (io), 11 PWM2L/RE2 (io), 12 PWM1H/RE1 (io), 13 PWM1L/RE0 (io), 14 SYNCI/RF14 (io), 15 U1RX/RF2 (io), 16 AVSS (power), 17 AVDD (power), 18 ~{MCLR} (in), 19 SCL/RG2 (io), 20 U1TX/RF3 (io), 21 AN0/CMP1A/CN2/RB0 (io), 22 AN1/CMP1B/CN3/RB1 (io), 23 AN2/CMP1C/CMP2A/CN4/RB2 (io), 24 AN3/CMP1D/CMP2B/CN5/RB3 (io), 25 AN4/CMP2C/CMP3A/CN6/RB4 (io), 26 AN5/CMP2D/CMP3B/CN7/RB5 (io), 27 AN11/IFLT2/RB11 (io), 28 AN10/IFLT4/RB10 (io), 29 VDD (power), 30 VSS (power), 31 AN8/CMP4C/RB8 (io), 32 AN6/CMP3C/CMP4A/OSC1/CLKI/RB6 (io), 33 AN7/CMP3D/CMP4B/OSC2/CLKO/RB7 (io), 34 PGD1/EMUD1/PWM4H/T2CK/U1ATX/CN1/RE7 (io), 35 PGC1/EMUC1/PWM4L/T1CK/U1ARX/CN0/RE6 (io), 36 AN9/EXTREF/CMP4D/RB9 (io), 37 SFLT1/RA8 (io), 38 OC2/RD1 (io), 39 VSS (power), 40 VDD (power), 41 PGD2/EMUD2/SCK1/INT2/RF6 (io), 42 PGC2/EMUC2/OC1/IC1/INT1/RD0 (io), 43 SFLT2/INT0/OCFLTA/RA9 (io), 44 PGD/EMUD/SDO1/RF8 (io), 45 ThermalPad

## DSPIC30F2023-20E/PT
designator U?
High-Performance 16-bit Digital Signal Controller with Switch Mode Power Supply, 12 KB Flash, 512 Byte SRAM, 44-Pin TQFP, Extended High Temperature; Published: 29-Jan-2009; DatasheetVersion: revC, Nov-2006; PackageVersion: revBB, Aug-2009; PackageReference: TQFP-PT44; Publisher: Altium Limited; PackageDescription: 44-Lead Plastic Thin Quad Flatpack (PT) - 10x10x1mm Body, 2.00mm [TQFP]; Supplier 1: Digi-Key; Supplier Part Number 1: DSPIC30F2023-20E/PT-ND; Code_JEDEC: MS-026; ComponentLink1Description: Datasheet; ComponentLink1URL: http://ww1.microchip.com/downloads/en/DeviceDoc/70178C.pdf; ComponentLink2Description: Packaging Specification; ComponentLink2URL: http://www.microchip.com/stellent/groups/techpub_sg/documents/packagingspec/en012702.pdf; ComponentLink3Description: Microchip.com Home; ComponentLink3URL: http://www.microchip.com/
footprint TQFP-PT44_N (Thin QFP, 44-Leads, Body 10x10mm, Pitch 0.8mm, IPC Medium Density)
footprint TQFP-PT44_L (Thin QFP, 44-Leads, Body 10x10mm, Pitch 0.8mm, IPC High Density)
footprint TQFP-PT44_M (Thin QFP, 44-Leads, Body 10x10mm, Pitch 0.8mm, IPC Low Density)
pins: 1 PGC/EMUC/SDI1/RF7 (io), 2 SYNCO/~{SS1}/RF15 (io), 3 SFLT3/RA10 (io), 4 SFLT4/RA11 (io), 5 SDA/RG3 (io), 6 VSS (power), 7 VDD (power), 8 PWM3H/RE5 (io), 9 PWM3L/RE4 (io), 10 PWM2H/RE3 (io), 11 PWM2L/RE2 (io), 12 PWM1H/RE1 (io), 13 PWM1L/RE0 (io), 14 SYNCI/RF14 (io), 15 U1RX/RF2 (io), 16 AVSS (power), 17 AVDD (power), 18 ~{MCLR} (in), 19 SCL/RG2 (io), 20 U1TX/RF3 (io), 21 AN0/CMP1A/CN2/RB0 (io), 22 AN1/CMP1B/CN3/RB1 (io), 23 AN2/CMP1C/CMP2A/CN4/RB2 (io), 24 AN3/CMP1D/CMP2B/CN5/RB3 (io), 25 AN4/CMP2C/CMP3A/CN6/RB4 (io), 26 AN5/CMP2D/CMP3B/CN7/RB5 (io), 27 AN11/IFLT2/RB11 (io), 28 AN10/IFLT4/RB10 (io), 29 VDD (power), 30 VSS (power), 31 AN8/CMP4C/RB8 (io), 32 AN6/CMP3C/CMP4A/OSC1/CLKI/RB6 (io), 33 AN7/CMP3D/CMP4B/OSC2/CLKO/RB7 (io), 34 PGD1/EMUD1/PWM4H/T2CK/U1ATX/CN1/RE7 (io), 35 PGC1/EMUC1/PWM4L/T1CK/U1ARX/CN0/RE6 (io), 36 AN9/EXTREF/CMP4D/RB9 (io), 37 SFLT1/RA8 (io), 38 OC2/RD1 (io), 39 VSS (power), 40 VDD (power), 41 PGD2/EMUD2/SCK1/INT2/RF6 (io), 42 PGC2/EMUC2/OC1/IC1/INT1/RD0 (io), 43 SFLT2/INT0/OCFLTA/RA9 (io), 44 PGD/EMUD/SDO1/RF8 (io)

## DSPIC30F2023-30I/ML
designator U?
High-Performance 16-bit Digital Signal Controller with Switch Mode Power Supply, 12 KB Flash, 512 Byte SRAM, 44-Pin QFN, Industrial Temperature; Published: 29-Jan-2009; DatasheetVersion: revC, Nov-2006; PackageVersion: revBB, Aug-2009; PackageReference: QFN-ML44; Publisher: Altium Limited; PackageDescription: 44-Lead Plastic Quad Flat, No Lead Package (ML) - 8x8 mm Body [QFN]; Supplier 1: Digi-Key; Supplier Part Number 1: DSPIC30F2023-30I/ML-ND; Supplier 2: Farnell; Supplier Part Number 2: 1297282; Code_JEDEC: MO-220; Code_IPC: QFN65P800X800-44V2; ComponentLink1Description: Datasheet; ComponentLink1URL: http://ww1.microchip.com/downloads/en/DeviceDoc/70178C.pdf; ComponentLink2Description: Packaging Specification; ComponentLink2URL: http://www.microchip.com/stellent/groups/techpub_sg/documents/packagingspec/en012702.pdf; ComponentLink3Description: Microchip.com Home; ComponentLink3URL: http://www.microchip.com/
footprint QFN-ML44_N (QFN, 44-Leads, Body 8x8 mm, Pitch 0.65mm, IPC Medium Density)
footprint QFN-ML44_L (QFN, 44-Leads, Body 8x8 mm, Pitch 0.65mm, IPC High Density)
footprint QFN-ML44_M (QFN, 44-Leads, Body 8x8 mm, Pitch 0.65mm, IPC Low Density)
pins: 1 PGC/EMUC/SDI1/RF7 (io), 2 SYNCO/~{SS1}/RF15 (io), 3 SFLT3/RA10 (io), 4 SFLT4/RA11 (io), 5 SDA/RG3 (io), 6 VSS (power), 7 VDD (power), 8 PWM3H/RE5 (io), 9 PWM3L/RE4 (io), 10 PWM2H/RE3 (io), 11 PWM2L/RE2 (io), 12 PWM1H/RE1 (io), 13 PWM1L/RE0 (io), 14 SYNCI/RF14 (io), 15 U1RX/RF2 (io), 16 AVSS (power), 17 AVDD (power), 18 ~{MCLR} (in), 19 SCL/RG2 (io), 20 U1TX/RF3 (io), 21 AN0/CMP1A/CN2/RB0 (io), 22 AN1/CMP1B/CN3/RB1 (io), 23 AN2/CMP1C/CMP2A/CN4/RB2 (io), 24 AN3/CMP1D/CMP2B/CN5/RB3 (io), 25 AN4/CMP2C/CMP3A/CN6/RB4 (io), 26 AN5/CMP2D/CMP3B/CN7/RB5 (io), 27 AN11/IFLT2/RB11 (io), 28 AN10/IFLT4/RB10 (io), 29 VDD (power), 30 VSS (power), 31 AN8/CMP4C/RB8 (io), 32 AN6/CMP3C/CMP4A/OSC1/CLKI/RB6 (io), 33 AN7/CMP3D/CMP4B/OSC2/CLKO/RB7 (io), 34 PGD1/EMUD1/PWM4H/T2CK/U1ATX/CN1/RE7 (io), 35 PGC1/EMUC1/PWM4L/T1CK/U1ARX/CN0/RE6 (io), 36 AN9/EXTREF/CMP4D/RB9 (io), 37 SFLT1/RA8 (io), 38 OC2/RD1 (io), 39 VSS (power), 40 VDD (power), 41 PGD2/EMUD2/SCK1/INT2/RF6 (io), 42 PGC2/EMUC2/OC1/IC1/INT1/RD0 (io), 43 SFLT2/INT0/OCFLTA/RA9 (io), 44 PGD/EMUD/SDO1/RF8 (io), 45 ThermalPad

## DSPIC30F2023-30I/PT
designator U?
High-Performance 16-bit Digital Signal Controller with Switch Mode Power Supply, 12 KB Flash, 512 Byte SRAM, 44-Pin TQFP, Industrial Temperature; Published: 29-Jan-2009; DatasheetVersion: revC, Nov-2006; PackageVersion: revBB, Aug-2009; PackageReference: TQFP-PT44; Publisher: Altium Limited; PackageDescription: 44-Lead Plastic Thin Quad Flatpack (PT) - 10x10x1mm Body, 2.00mm [TQFP]; Supplier 1: Digi-Key; Supplier Part Number 1: DSPIC30F2023-30I/PT-ND; Supplier 2: Farnell; Supplier Part Number 2: 1332027; Code_JEDEC: MS-026; ComponentLink1Description: Datasheet; ComponentLink1URL: http://ww1.microchip.com/downloads/en/DeviceDoc/70178C.pdf; ComponentLink2Description: Packaging Specification; ComponentLink2URL: http://www.microchip.com/stellent/groups/techpub_sg/documents/packagingspec/en012702.pdf; ComponentLink3Description: Microchip.com Home; ComponentLink3URL: http://www.microchip.com/
footprint TQFP-PT44_N (Thin QFP, 44-Leads, Body 10x10mm, Pitch 0.8mm, IPC Medium Density)
footprint TQFP-PT44_L (Thin QFP, 44-Leads, Body 10x10mm, Pitch 0.8mm, IPC High Density)
footprint TQFP-PT44_M (Thin QFP, 44-Leads, Body 10x10mm, Pitch 0.8mm, IPC Low Density)
pins: 1 PGC/EMUC/SDI1/RF7 (io), 2 SYNCO/~{SS1}/RF15 (io), 3 SFLT3/RA10 (io), 4 SFLT4/RA11 (io), 5 SDA/RG3 (io), 6 VSS (power), 7 VDD (power), 8 PWM3H/RE5 (io), 9 PWM3L/RE4 (io), 10 PWM2H/RE3 (io), 11 PWM2L/RE2 (io), 12 PWM1H/RE1 (io), 13 PWM1L/RE0 (io), 14 SYNCI/RF14 (io), 15 U1RX/RF2 (io), 16 AVSS (power), 17 AVDD (power), 18 ~{MCLR} (in), 19 SCL/RG2 (io), 20 U1TX/RF3 (io), 21 AN0/CMP1A/CN2/RB0 (io), 22 AN1/CMP1B/CN3/RB1 (io), 23 AN2/CMP1C/CMP2A/CN4/RB2 (io), 24 AN3/CMP1D/CMP2B/CN5/RB3 (io), 25 AN4/CMP2C/CMP3A/CN6/RB4 (io), 26 AN5/CMP2D/CMP3B/CN7/RB5 (io), 27 AN11/IFLT2/RB11 (io), 28 AN10/IFLT4/RB10 (io), 29 VDD (power), 30 VSS (power), 31 AN8/CMP4C/RB8 (io), 32 AN6/CMP3C/CMP4A/OSC1/CLKI/RB6 (io), 33 AN7/CMP3D/CMP4B/OSC2/CLKO/RB7 (io), 34 PGD1/EMUD1/PWM4H/T2CK/U1ATX/CN1/RE7 (io), 35 PGC1/EMUC1/PWM4L/T1CK/U1ARX/CN0/RE6 (io), 36 AN9/EXTREF/CMP4D/RB9 (io), 37 SFLT1/RA8 (io), 38 OC2/RD1 (io), 39 VSS (power), 40 VDD (power), 41 PGD2/EMUD2/SCK1/INT2/RF6 (io), 42 PGC2/EMUC2/OC1/IC1/INT1/RD0 (io), 43 SFLT2/INT0/OCFLTA/RA9 (io), 44 PGD/EMUD/SDO1/RF8 (io)

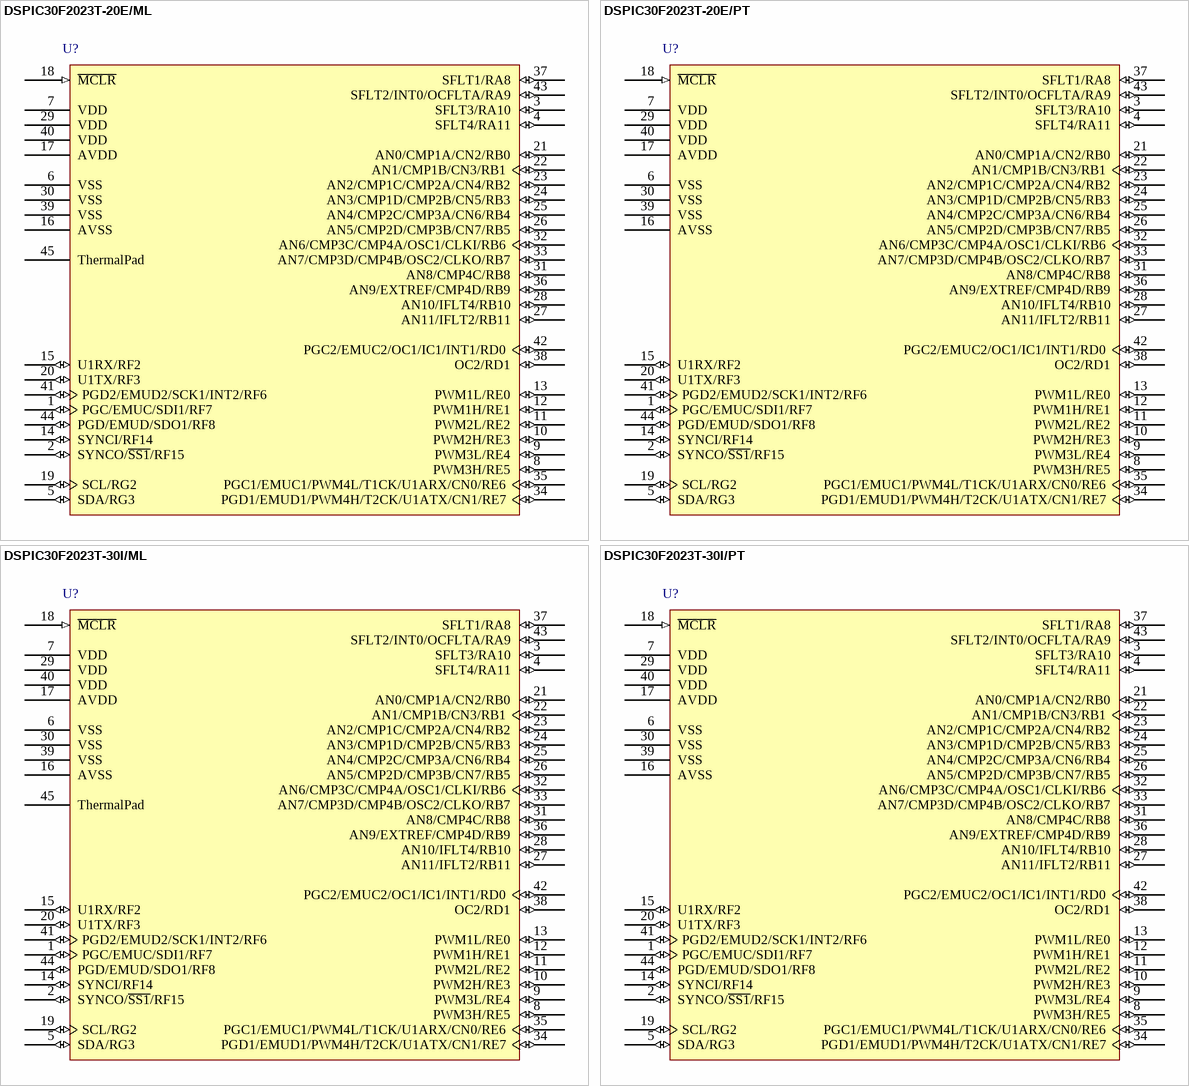
[diagram p8: symbols DSPIC30F2023T-20E/ML to DSPIC30F2023T-30I/PT]

## DSPIC30F2023T-20E/ML
designator U?
High-Performance 16-bit Digital Signal Controller with Switch Mode Power Supply, 12 KB Flash, 512 Byte SRAM, 44-Pin QFN, Extended High Temperature, Tape and Reel; Published: 29-Jan-2009; DatasheetVersion: revC, Nov-2006; PackageVersion: revBB, Aug-2009; PackageReference: QFN-ML44; Publisher: Altium Limited; PackageDescription: 44-Lead Plastic Quad Flat, No Lead Package (ML) - 8x8 mm Body [QFN]; Code_JEDEC: MO-220; Code_IPC: QFN65P800X800-44V2; ComponentLink1Description: Datasheet; ComponentLink1URL: http://ww1.microchip.com/downloads/en/DeviceDoc/70178C.pdf; ComponentLink2Description: Packaging Specification; ComponentLink2URL: http://www.microchip.com/stellent/groups/techpub_sg/documents/packagingspec/en012702.pdf; ComponentLink3Description: Microchip.com Home; ComponentLink3URL: http://www.microchip.com/
footprint QFN-ML44_N (QFN, 44-Leads, Body 8x8 mm, Pitch 0.65mm, IPC Medium Density)
footprint QFN-ML44_L (QFN, 44-Leads, Body 8x8 mm, Pitch 0.65mm, IPC High Density)
footprint QFN-ML44_M (QFN, 44-Leads, Body 8x8 mm, Pitch 0.65mm, IPC Low Density)
pins: 1 PGC/EMUC/SDI1/RF7 (io), 2 SYNCO/~{SS1}/RF15 (io), 3 SFLT3/RA10 (io), 4 SFLT4/RA11 (io), 5 SDA/RG3 (io), 6 VSS (power), 7 VDD (power), 8 PWM3H/RE5 (io), 9 PWM3L/RE4 (io), 10 PWM2H/RE3 (io), 11 PWM2L/RE2 (io), 12 PWM1H/RE1 (io), 13 PWM1L/RE0 (io), 14 SYNCI/RF14 (io), 15 U1RX/RF2 (io), 16 AVSS (power), 17 AVDD (power), 18 ~{MCLR} (in), 19 SCL/RG2 (io), 20 U1TX/RF3 (io), 21 AN0/CMP1A/CN2/RB0 (io), 22 AN1/CMP1B/CN3/RB1 (io), 23 AN2/CMP1C/CMP2A/CN4/RB2 (io), 24 AN3/CMP1D/CMP2B/CN5/RB3 (io), 25 AN4/CMP2C/CMP3A/CN6/RB4 (io), 26 AN5/CMP2D/CMP3B/CN7/RB5 (io), 27 AN11/IFLT2/RB11 (io), 28 AN10/IFLT4/RB10 (io), 29 VDD (power), 30 VSS (power), 31 AN8/CMP4C/RB8 (io), 32 AN6/CMP3C/CMP4A/OSC1/CLKI/RB6 (io), 33 AN7/CMP3D/CMP4B/OSC2/CLKO/RB7 (io), 34 PGD1/EMUD1/PWM4H/T2CK/U1ATX/CN1/RE7 (io), 35 PGC1/EMUC1/PWM4L/T1CK/U1ARX/CN0/RE6 (io), 36 AN9/EXTREF/CMP4D/RB9 (io), 37 SFLT1/RA8 (io), 38 OC2/RD1 (io), 39 VSS (power), 40 VDD (power), 41 PGD2/EMUD2/SCK1/INT2/RF6 (io), 42 PGC2/EMUC2/OC1/IC1/INT1/RD0 (io), 43 SFLT2/INT0/OCFLTA/RA9 (io), 44 PGD/EMUD/SDO1/RF8 (io), 45 ThermalPad

## DSPIC30F2023T-20E/PT
designator U?
High-Performance 16-bit Digital Signal Controller with Switch Mode Power Supply, 12 KB Flash, 512 Byte SRAM, 44-Pin TQFP, Extended High Temperature, Tape and Reel; Published: 29-Jan-2009; DatasheetVersion: revC, Nov-2006; PackageVersion: revBB, Aug-2009; PackageReference: TQFP-PT44; Publisher: Altium Limited; PackageDescription: 44-Lead Plastic Thin Quad Flatpack (PT) - 10x10x1mm Body, 2.00mm [TQFP]; Code_JEDEC: MS-026; ComponentLink1Description: Datasheet; ComponentLink1URL: http://ww1.microchip.com/downloads/en/DeviceDoc/70178C.pdf; ComponentLink2Description: Packaging Specification; ComponentLink2URL: http://www.microchip.com/stellent/groups/techpub_sg/documents/packagingspec/en012702.pdf; ComponentLink3Description: Microchip.com Home; ComponentLink3URL: http://www.microchip.com/
footprint TQFP-PT44_N (Thin QFP, 44-Leads, Body 10x10mm, Pitch 0.8mm, IPC Medium Density)
footprint TQFP-PT44_L (Thin QFP, 44-Leads, Body 10x10mm, Pitch 0.8mm, IPC High Density)
footprint TQFP-PT44_M (Thin QFP, 44-Leads, Body 10x10mm, Pitch 0.8mm, IPC Low Density)
pins: 1 PGC/EMUC/SDI1/RF7 (io), 2 SYNCO/~{SS1}/RF15 (io), 3 SFLT3/RA10 (io), 4 SFLT4/RA11 (io), 5 SDA/RG3 (io), 6 VSS (power), 7 VDD (power), 8 PWM3H/RE5 (io), 9 PWM3L/RE4 (io), 10 PWM2H/RE3 (io), 11 PWM2L/RE2 (io), 12 PWM1H/RE1 (io), 13 PWM1L/RE0 (io), 14 SYNCI/RF14 (io), 15 U1RX/RF2 (io), 16 AVSS (power), 17 AVDD (power), 18 ~{MCLR} (in), 19 SCL/RG2 (io), 20 U1TX/RF3 (io), 21 AN0/CMP1A/CN2/RB0 (io), 22 AN1/CMP1B/CN3/RB1 (io), 23 AN2/CMP1C/CMP2A/CN4/RB2 (io), 24 AN3/CMP1D/CMP2B/CN5/RB3 (io), 25 AN4/CMP2C/CMP3A/CN6/RB4 (io), 26 AN5/CMP2D/CMP3B/CN7/RB5 (io), 27 AN11/IFLT2/RB11 (io), 28 AN10/IFLT4/RB10 (io), 29 VDD (power), 30 VSS (power), 31 AN8/CMP4C/RB8 (io), 32 AN6/CMP3C/CMP4A/OSC1/CLKI/RB6 (io), 33 AN7/CMP3D/CMP4B/OSC2/CLKO/RB7 (io), 34 PGD1/EMUD1/PWM4H/T2CK/U1ATX/CN1/RE7 (io), 35 PGC1/EMUC1/PWM4L/T1CK/U1ARX/CN0/RE6 (io), 36 AN9/EXTREF/CMP4D/RB9 (io), 37 SFLT1/RA8 (io), 38 OC2/RD1 (io), 39 VSS (power), 40 VDD (power), 41 PGD2/EMUD2/SCK1/INT2/RF6 (io), 42 PGC2/EMUC2/OC1/IC1/INT1/RD0 (io), 43 SFLT2/INT0/OCFLTA/RA9 (io), 44 PGD/EMUD/SDO1/RF8 (io)

## DSPIC30F2023T-30I/ML
designator U?
High-Performance 16-bit Digital Signal Controller with Switch Mode Power Supply, 12 KB Flash, 512 Byte SRAM, 44-Pin QFN, Industrial Temperature, Tape and Reel; Published: 29-Jan-2009; DatasheetVersion: revC, Nov-2006; PackageVersion: revBB, Aug-2009; PackageReference: QFN-ML44; Publisher: Altium Limited; PackageDescription: 44-Lead Plastic Quad Flat, No Lead Package (ML) - 8x8 mm Body [QFN]; Supplier 1: Digi-Key; Supplier Part Number 1: DSPIC30F2023T-30I/MLTR-ND; Code_JEDEC: MO-220; Code_IPC: QFN65P800X800-44V2; ComponentLink1Description: Datasheet; ComponentLink1URL: http://ww1.microchip.com/downloads/en/DeviceDoc/70178C.pdf; ComponentLink2Description: Packaging Specification; ComponentLink2URL: http://www.microchip.com/stellent/groups/techpub_sg/documents/packagingspec/en012702.pdf; ComponentLink3Description: Microchip.com Home; ComponentLink3URL: http://www.microchip.com/
footprint QFN-ML44_N (QFN, 44-Leads, Body 8x8 mm, Pitch 0.65mm, IPC Medium Density)
footprint QFN-ML44_L (QFN, 44-Leads, Body 8x8 mm, Pitch 0.65mm, IPC High Density)
footprint QFN-ML44_M (QFN, 44-Leads, Body 8x8 mm, Pitch 0.65mm, IPC Low Density)
pins: 1 PGC/EMUC/SDI1/RF7 (io), 2 SYNCO/~{SS1}/RF15 (io), 3 SFLT3/RA10 (io), 4 SFLT4/RA11 (io), 5 SDA/RG3 (io), 6 VSS (power), 7 VDD (power), 8 PWM3H/RE5 (io), 9 PWM3L/RE4 (io), 10 PWM2H/RE3 (io), 11 PWM2L/RE2 (io), 12 PWM1H/RE1 (io), 13 PWM1L/RE0 (io), 14 SYNCI/RF14 (io), 15 U1RX/RF2 (io), 16 AVSS (power), 17 AVDD (power), 18 ~{MCLR} (in), 19 SCL/RG2 (io), 20 U1TX/RF3 (io), 21 AN0/CMP1A/CN2/RB0 (io), 22 AN1/CMP1B/CN3/RB1 (io), 23 AN2/CMP1C/CMP2A/CN4/RB2 (io), 24 AN3/CMP1D/CMP2B/CN5/RB3 (io), 25 AN4/CMP2C/CMP3A/CN6/RB4 (io), 26 AN5/CMP2D/CMP3B/CN7/RB5 (io), 27 AN11/IFLT2/RB11 (io), 28 AN10/IFLT4/RB10 (io), 29 VDD (power), 30 VSS (power), 31 AN8/CMP4C/RB8 (io), 32 AN6/CMP3C/CMP4A/OSC1/CLKI/RB6 (io), 33 AN7/CMP3D/CMP4B/OSC2/CLKO/RB7 (io), 34 PGD1/EMUD1/PWM4H/T2CK/U1ATX/CN1/RE7 (io), 35 PGC1/EMUC1/PWM4L/T1CK/U1ARX/CN0/RE6 (io), 36 AN9/EXTREF/CMP4D/RB9 (io), 37 SFLT1/RA8 (io), 38 OC2/RD1 (io), 39 VSS (power), 40 VDD (power), 41 PGD2/EMUD2/SCK1/INT2/RF6 (io), 42 PGC2/EMUC2/OC1/IC1/INT1/RD0 (io), 43 SFLT2/INT0/OCFLTA/RA9 (io), 44 PGD/EMUD/SDO1/RF8 (io), 45 ThermalPad

## DSPIC30F2023T-30I/PT
designator U?
High-Performance 16-bit Digital Signal Controller with Switch Mode Power Supply, 12 KB Flash, 512 Byte SRAM, 44-Pin TQFP, Industrial Temperature, Tape and Reel; Published: 29-Jan-2009; DatasheetVersion: revC, Nov-2006; PackageVersion: revBB, Aug-2009; PackageReference: TQFP-PT44; Publisher: Altium Limited; PackageDescription: 44-Lead Plastic Thin Quad Flatpack (PT) - 10x10x1mm Body, 2.00mm [TQFP]; Supplier 1: Digi-Key; Supplier Part Number 1: DSPIC30F2023T-30I/PTTR-ND; Code_JEDEC: MS-026; ComponentLink1Description: Datasheet; ComponentLink1URL: http://ww1.microchip.com/downloads/en/DeviceDoc/70178C.pdf; ComponentLink2Description: Packaging Specification; ComponentLink2URL: http://www.microchip.com/stellent/groups/techpub_sg/documents/packagingspec/en012702.pdf; ComponentLink3Description: Microchip.com Home; ComponentLink3URL: http://www.microchip.com/
footprint TQFP-PT44_N (Thin QFP, 44-Leads, Body 10x10mm, Pitch 0.8mm, IPC Medium Density)
footprint TQFP-PT44_L (Thin QFP, 44-Leads, Body 10x10mm, Pitch 0.8mm, IPC High Density)
footprint TQFP-PT44_M (Thin QFP, 44-Leads, Body 10x10mm, Pitch 0.8mm, IPC Low Density)
pins: 1 PGC/EMUC/SDI1/RF7 (io), 2 SYNCO/~{SS1}/RF15 (io), 3 SFLT3/RA10 (io), 4 SFLT4/RA11 (io), 5 SDA/RG3 (io), 6 VSS (power), 7 VDD (power), 8 PWM3H/RE5 (io), 9 PWM3L/RE4 (io), 10 PWM2H/RE3 (io), 11 PWM2L/RE2 (io), 12 PWM1H/RE1 (io), 13 PWM1L/RE0 (io), 14 SYNCI/RF14 (io), 15 U1RX/RF2 (io), 16 AVSS (power), 17 AVDD (power), 18 ~{MCLR} (in), 19 SCL/RG2 (io), 20 U1TX/RF3 (io), 21 AN0/CMP1A/CN2/RB0 (io), 22 AN1/CMP1B/CN3/RB1 (io), 23 AN2/CMP1C/CMP2A/CN4/RB2 (io), 24 AN3/CMP1D/CMP2B/CN5/RB3 (io), 25 AN4/CMP2C/CMP3A/CN6/RB4 (io), 26 AN5/CMP2D/CMP3B/CN7/RB5 (io), 27 AN11/IFLT2/RB11 (io), 28 AN10/IFLT4/RB10 (io), 29 VDD (power), 30 VSS (power), 31 AN8/CMP4C/RB8 (io), 32 AN6/CMP3C/CMP4A/OSC1/CLKI/RB6 (io), 33 AN7/CMP3D/CMP4B/OSC2/CLKO/RB7 (io), 34 PGD1/EMUD1/PWM4H/T2CK/U1ATX/CN1/RE7 (io), 35 PGC1/EMUC1/PWM4L/T1CK/U1ARX/CN0/RE6 (io), 36 AN9/EXTREF/CMP4D/RB9 (io), 37 SFLT1/RA8 (io), 38 OC2/RD1 (io), 39 VSS (power), 40 VDD (power), 41 PGD2/EMUD2/SCK1/INT2/RF6 (io), 42 PGC2/EMUC2/OC1/IC1/INT1/RD0 (io), 43 SFLT2/INT0/OCFLTA/RA9 (io), 44 PGD/EMUD/SDO1/RF8 (io)

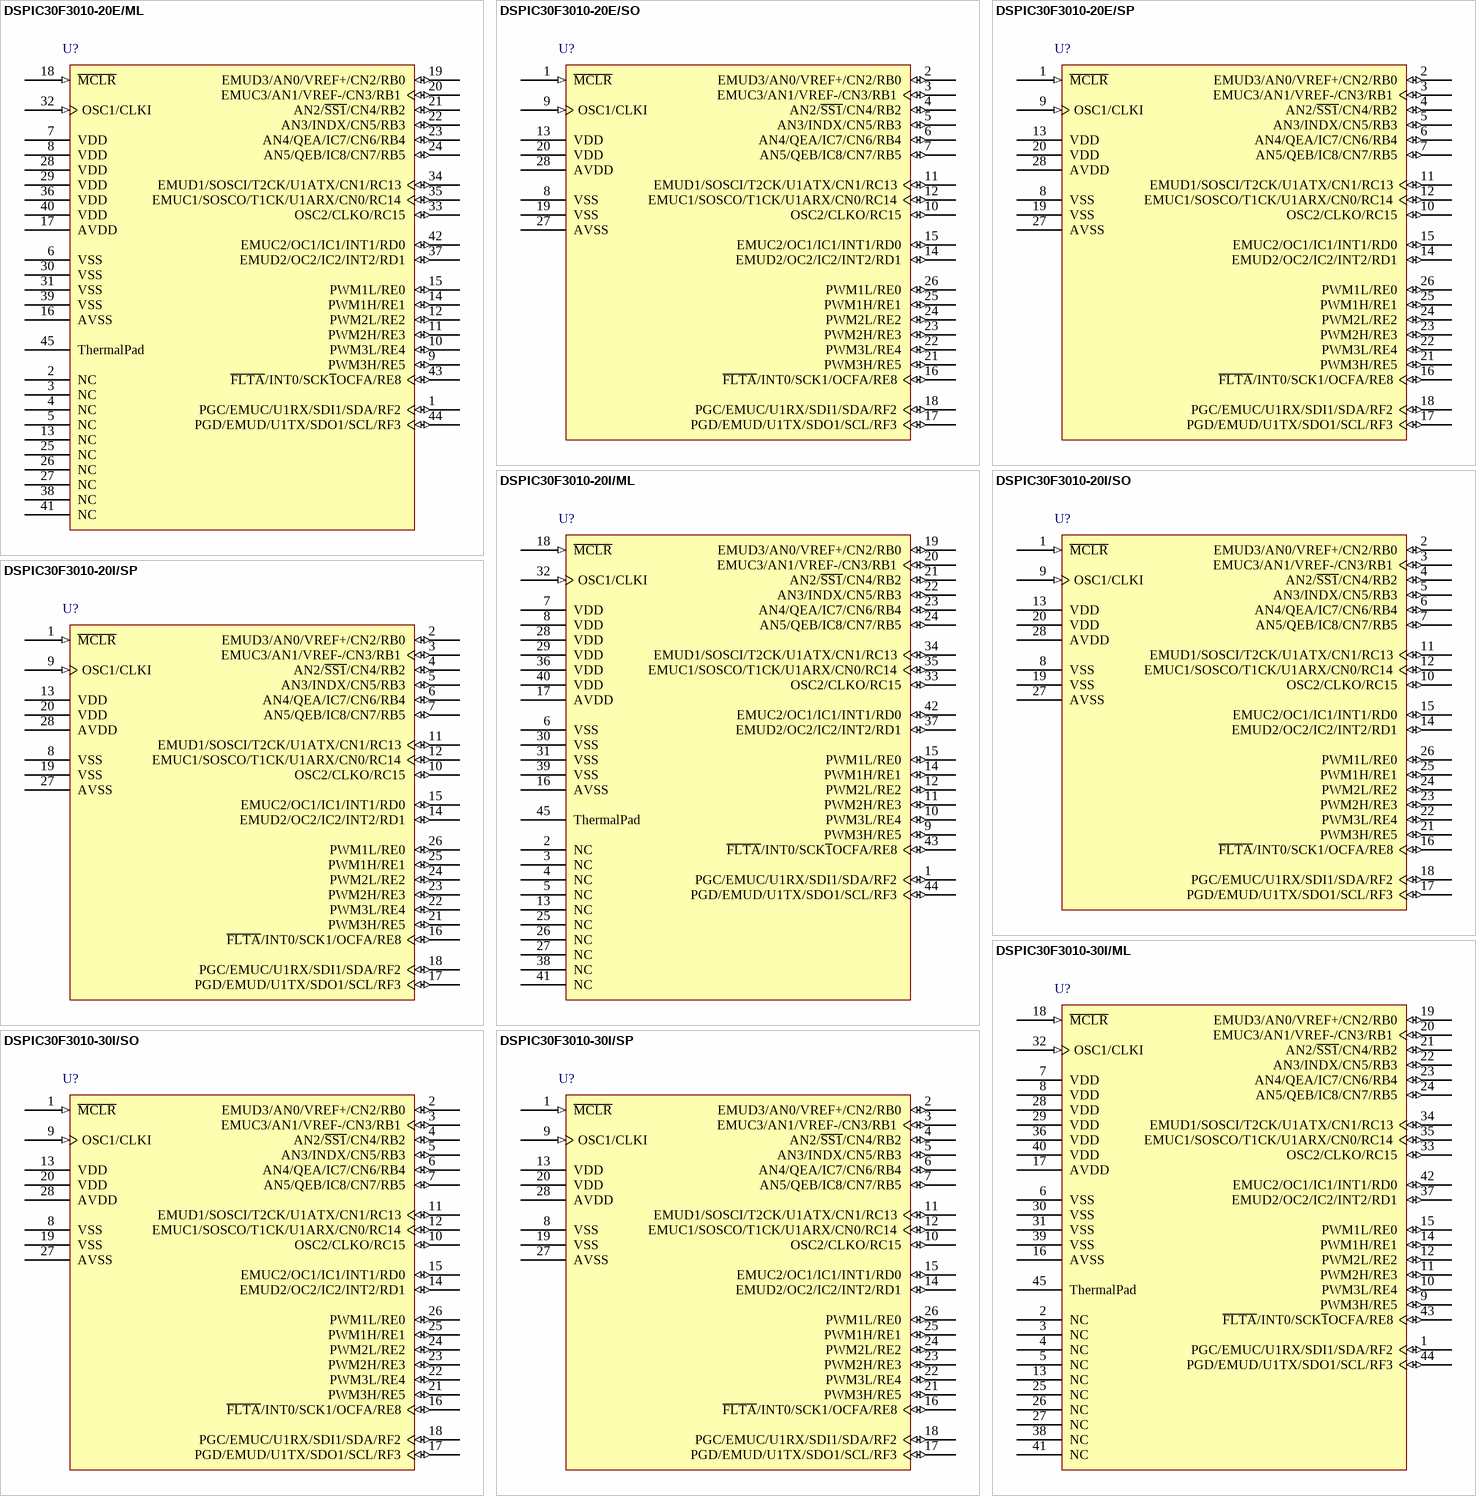
[diagram p9: symbols DSPIC30F3010-20E/ML to DSPIC30F3010-30I/SP]

## DSPIC30F3010-20E/ML
designator U?
High-Performance 16-bit Digital Signal Controller, 24 KB Flash, 1 KB SRAM, 1 KB EEPROM, 44-Pin QFN, Extended High Temperature; Published: 29-Jan-2009; DatasheetVersion: revE, Apr-2008; PackageVersion: revBB, Aug-2009; PackageReference: QFN-ML44; Publisher: Altium Limited; PackageDescription: 44-Lead Plastic Quad Flat, No Lead Package (ML) - 8x8 mm Body [QFN]; Supplier 1: Digi-Key; Supplier Part Number 1: DSPIC30F3010-20E/ML-ND; Code_JEDEC: MO-220; Code_IPC: QFN65P800X800-44V2; ComponentLink1Description: Datasheet; ComponentLink1URL: http://ww1.microchip.com/downloads/en/DeviceDoc/70141e.pdf; ComponentLink2Description: Packaging Specification; ComponentLink2URL: http://www.microchip.com/stellent/groups/techpub_sg/documents/packagingspec/en012702.pdf; ComponentLink3Description: Microchip.com Home; ComponentLink3URL: http://www.microchip.com/
footprint QFN-ML44_N (QFN, 44-Leads, Body 8x8 mm, Pitch 0.65mm, IPC Medium Density)
footprint QFN-ML44_L (QFN, 44-Leads, Body 8x8 mm, Pitch 0.65mm, IPC High Density)
footprint QFN-ML44_M (QFN, 44-Leads, Body 8x8 mm, Pitch 0.65mm, IPC Low Density)
pins: 1 PGC/EMUC/U1RX/SDI1/SDA/RF2 (io), 2 NC, 3 NC, 4 NC, 5 NC, 6 VSS (power), 7 VDD (power), 8 VDD (power), 9 PWM3H/RE5 (io), 10 PWM3L/RE4 (io), 11 PWM2H/RE3 (io), 12 PWM2L/RE2 (io), 13 NC, 14 PWM1H/RE1 (io), 15 PWM1L/RE0 (io), 16 AVSS (power), 17 AVDD (power), 18 ~{MCLR} (in), 19 EMUD3/AN0/VREF+/CN2/RB0 (io), 20 EMUC3/AN1/VREF-/CN3/RB1 (io), 21 AN2/~{SS1}/CN4/RB2 (io), 22 AN3/INDX/CN5/RB3 (io), 23 AN4/QEA/IC7/CN6/RB4 (io), 24 AN5/QEB/IC8/CN7/RB5 (io), 25 NC, 26 NC, 27 NC, 28 VDD (power), 29 VDD (power), 30 VSS (power), 31 VSS (power), 32 OSC1/CLKI (in), 33 OSC2/CLKO/RC15 (io), 34 EMUD1/SOSCI/T2CK/U1ATX/CN1/RC13 (io), 35 EMUC1/SOSCO/T1CK/U1ARX/CN0/RC14 (io), 36 VDD (power), 37 EMUD2/OC2/IC2/INT2/RD1 (io), 38 NC, 39 VSS (power), 40 VDD (power), 41 NC, 42 EMUC2/OC1/IC1/INT1/RD0 (io), 43 ~{FLTA}/INT0/SCK~{1}OCFA/RE8 (io), 44 PGD/EMUD/U1TX/SDO1/SCL/RF3 (io), 45 ThermalPad

## DSPIC30F3010-20E/SO
designator U?
High-Performance 16-bit Digital Signal Controller, 24 KB Flash, 1 KB SRAM, 1 KB EEPROM, 28-Pin SOIC, Extended High Temperature; Published: 29-Jan-2009; DatasheetVersion: revE, Apr-2008; PackageVersion: revBB, Aug-2009; PackageReference: SOIC-SO28; Publisher: Altium Limited; PackageDescription: 28-Lead Plastic Small Outline (SO) - Wide 7.50mm Body [SOIC]; Supplier 1: Digi-Key; Supplier Part Number 1: DSPIC30F3010-20E/SO-ND; Code_JEDEC: MS-013; ComponentLink1Description: Datasheet; ComponentLink1URL: http://ww1.microchip.com/downloads/en/DeviceDoc/70141e.pdf; ComponentLink2Description: Packaging Specification; ComponentLink2URL: http://www.microchip.com/stellent/groups/techpub_sg/documents/packagingspec/en012702.pdf; ComponentLink3Description: Microchip.com Home; ComponentLink3URL: http://www.microchip.com/
footprint SOIC-SO28_N (SOIC, 28-Leads, Body 17.9x7.5mm, Pitch 1.27mm, IPC Medium Density)
footprint SOIC-SO28_L (SOIC, 28-Leads, Body 17.9x7.5mm, Pitch 1.27mm, IPC High Density)
footprint SOIC-SO28_M (SOIC, 28-Leads, Body 17.9x7.5mm, Pitch 1.27mm, IPC Low Density)
pins: 1 ~{MCLR} (in), 2 EMUD3/AN0/VREF+/CN2/RB0 (io), 3 EMUC3/AN1/VREF-/CN3/RB1 (io), 4 AN2/~{SS1}/CN4/RB2 (io), 5 AN3/INDX/CN5/RB3 (io), 6 AN4/QEA/IC7/CN6/RB4 (io), 7 AN5/QEB/IC8/CN7/RB5 (io), 8 VSS (power), 9 OSC1/CLKI (in), 10 OSC2/CLKO/RC15 (io), 11 EMUD1/SOSCI/T2CK/U1ATX/CN1/RC13 (io), 12 EMUC1/SOSCO/T1CK/U1ARX/CN0/RC14 (io), 13 VDD (power), 14 EMUD2/OC2/IC2/INT2/RD1 (io), 15 EMUC2/OC1/IC1/INT1/RD0 (io), 16 ~{FLTA}/INT0/SCK1/OCFA/RE8 (io), 17 PGD/EMUD/U1TX/SDO1/SCL/RF3 (io), 18 PGC/EMUC/U1RX/SDI1/SDA/RF2 (io), 19 VSS (power), 20 VDD (power), 21 PWM3H/RE5 (io), 22 PWM3L/RE4 (io), 23 PWM2H/RE3 (io), 24 PWM2L/RE2 (io), 25 PWM1H/RE1 (io), 26 PWM1L/RE0 (io), 27 AVSS (power), 28 AVDD (power)

## DSPIC30F3010-20E/SP
designator U?
High-Performance 16-bit Digital Signal Controller, 24 KB Flash, 1 KB SRAM, 1 KB EEPROM, 28-Pin SPDIP, Extended High Temperature; Published: 29-Jan-2009; DatasheetVersion: revE, Apr-2008; PackageVersion: revBB, Aug-2009; PackageReference: SPDIP300-SP28; Publisher: Altium Limited; PackageDescription: 28-Lead Skinny Plastic Dual In-Line (SP) - 300 mil Body [SPDIP]; Supplier 1: Digi-Key; Supplier Part Number 1: DSPIC30F3010-20E/SP-ND; ComponentLink1Description: Datasheet; ComponentLink1URL: http://ww1.microchip.com/downloads/en/DeviceDoc/70141e.pdf; ComponentLink2Description: Packaging Specification; ComponentLink2URL: http://www.microchip.com/stellent/groups/techpub_sg/documents/packagingspec/en012702.pdf; ComponentLink3Description: Microchip.com Home; ComponentLink3URL: http://www.microchip.com/
footprint SPDIP300-SP28 (DIP, 28-Leads, Row Spacing 7.62mm, Pitch 2.54mm, Body 34.9x6.8mm)
pins: 1 ~{MCLR} (in), 2 EMUD3/AN0/VREF+/CN2/RB0 (io), 3 EMUC3/AN1/VREF-/CN3/RB1 (io), 4 AN2/~{SS1}/CN4/RB2 (io), 5 AN3/INDX/CN5/RB3 (io), 6 AN4/QEA/IC7/CN6/RB4 (io), 7 AN5/QEB/IC8/CN7/RB5 (io), 8 VSS (power), 9 OSC1/CLKI (in), 10 OSC2/CLKO/RC15 (io), 11 EMUD1/SOSCI/T2CK/U1ATX/CN1/RC13 (io), 12 EMUC1/SOSCO/T1CK/U1ARX/CN0/RC14 (io), 13 VDD (power), 14 EMUD2/OC2/IC2/INT2/RD1 (io), 15 EMUC2/OC1/IC1/INT1/RD0 (io), 16 ~{FLTA}/INT0/SCK1/OCFA/RE8 (io), 17 PGD/EMUD/U1TX/SDO1/SCL/RF3 (io), 18 PGC/EMUC/U1RX/SDI1/SDA/RF2 (io), 19 VSS (power), 20 VDD (power), 21 PWM3H/RE5 (io), 22 PWM3L/RE4 (io), 23 PWM2H/RE3 (io), 24 PWM2L/RE2 (io), 25 PWM1H/RE1 (io), 26 PWM1L/RE0 (io), 27 AVSS (power), 28 AVDD (power)

## DSPIC30F3010-20I/ML
designator U?
High-Performance 16-bit Digital Signal Controller, 24 KB Flash, 1 KB SRAM, 1 KB EEPROM, 44-Pin QFN, Industrial Temperature; Published: 29-Jan-2009; DatasheetVersion: revE, Apr-2008; PackageVersion: revBB, Aug-2009; PackageReference: QFN-ML44; Publisher: Altium Limited; PackageDescription: 44-Lead Plastic Quad Flat, No Lead Package (ML) - 8x8 mm Body [QFN]; Supplier 1: Digi-Key; Supplier Part Number 1: DSPIC30F301020IML-ND; Code_JEDEC: MO-220; Code_IPC: QFN65P800X800-44V2; ComponentLink1Description: Datasheet; ComponentLink1URL: http://ww1.microchip.com/downloads/en/DeviceDoc/70141e.pdf; ComponentLink2Description: Packaging Specification; ComponentLink2URL: http://www.microchip.com/stellent/groups/techpub_sg/documents/packagingspec/en012702.pdf; ComponentLink3Description: Microchip.com Home; ComponentLink3URL: http://www.microchip.com/
footprint QFN-ML44_N (QFN, 44-Leads, Body 8x8 mm, Pitch 0.65mm, IPC Medium Density)
footprint QFN-ML44_L (QFN, 44-Leads, Body 8x8 mm, Pitch 0.65mm, IPC High Density)
footprint QFN-ML44_M (QFN, 44-Leads, Body 8x8 mm, Pitch 0.65mm, IPC Low Density)
pins: 1 PGC/EMUC/U1RX/SDI1/SDA/RF2 (io), 2 NC, 3 NC, 4 NC, 5 NC, 6 VSS (power), 7 VDD (power), 8 VDD (power), 9 PWM3H/RE5 (io), 10 PWM3L/RE4 (io), 11 PWM2H/RE3 (io), 12 PWM2L/RE2 (io), 13 NC, 14 PWM1H/RE1 (io), 15 PWM1L/RE0 (io), 16 AVSS (power), 17 AVDD (power), 18 ~{MCLR} (in), 19 EMUD3/AN0/VREF+/CN2/RB0 (io), 20 EMUC3/AN1/VREF-/CN3/RB1 (io), 21 AN2/~{SS1}/CN4/RB2 (io), 22 AN3/INDX/CN5/RB3 (io), 23 AN4/QEA/IC7/CN6/RB4 (io), 24 AN5/QEB/IC8/CN7/RB5 (io), 25 NC, 26 NC, 27 NC, 28 VDD (power), 29 VDD (power), 30 VSS (power), 31 VSS (power), 32 OSC1/CLKI (in), 33 OSC2/CLKO/RC15 (io), 34 EMUD1/SOSCI/T2CK/U1ATX/CN1/RC13 (io), 35 EMUC1/SOSCO/T1CK/U1ARX/CN0/RC14 (io), 36 VDD (power), 37 EMUD2/OC2/IC2/INT2/RD1 (io), 38 NC, 39 VSS (power), 40 VDD (power), 41 NC, 42 EMUC2/OC1/IC1/INT1/RD0 (io), 43 ~{FLTA}/INT0/SCK~{1}OCFA/RE8 (io), 44 PGD/EMUD/U1TX/SDO1/SCL/RF3 (io), 45 ThermalPad

## DSPIC30F3010-20I/SO
designator U?
High-Performance 16-bit Digital Signal Controller, 24 KB Flash, 1 KB SRAM, 1 KB EEPROM, 28-Pin SOIC, Industrial Temperature; Published: 29-Jan-2009; DatasheetVersion: revE, Apr-2008; PackageVersion: revBB, Aug-2009; PackageReference: SOIC-SO28; Publisher: Altium Limited; PackageDescription: 28-Lead Plastic Small Outline (SO) - Wide 7.50mm Body [SOIC]; Supplier 1: Digi-Key; Supplier Part Number 1: DSPIC30F301020ISO-ND; Code_JEDEC: MS-013; ComponentLink1Description: Datasheet; ComponentLink1URL: http://ww1.microchip.com/downloads/en/DeviceDoc/70141e.pdf; ComponentLink2Description: Packaging Specification; ComponentLink2URL: http://www.microchip.com/stellent/groups/techpub_sg/documents/packagingspec/en012702.pdf; ComponentLink3Description: Microchip.com Home; ComponentLink3URL: http://www.microchip.com/
footprint SOIC-SO28_N (SOIC, 28-Leads, Body 17.9x7.5mm, Pitch 1.27mm, IPC Medium Density)
footprint SOIC-SO28_L (SOIC, 28-Leads, Body 17.9x7.5mm, Pitch 1.27mm, IPC High Density)
footprint SOIC-SO28_M (SOIC, 28-Leads, Body 17.9x7.5mm, Pitch 1.27mm, IPC Low Density)
pins: 1 ~{MCLR} (in), 2 EMUD3/AN0/VREF+/CN2/RB0 (io), 3 EMUC3/AN1/VREF-/CN3/RB1 (io), 4 AN2/~{SS1}/CN4/RB2 (io), 5 AN3/INDX/CN5/RB3 (io), 6 AN4/QEA/IC7/CN6/RB4 (io), 7 AN5/QEB/IC8/CN7/RB5 (io), 8 VSS (power), 9 OSC1/CLKI (in), 10 OSC2/CLKO/RC15 (io), 11 EMUD1/SOSCI/T2CK/U1ATX/CN1/RC13 (io), 12 EMUC1/SOSCO/T1CK/U1ARX/CN0/RC14 (io), 13 VDD (power), 14 EMUD2/OC2/IC2/INT2/RD1 (io), 15 EMUC2/OC1/IC1/INT1/RD0 (io), 16 ~{FLTA}/INT0/SCK1/OCFA/RE8 (io), 17 PGD/EMUD/U1TX/SDO1/SCL/RF3 (io), 18 PGC/EMUC/U1RX/SDI1/SDA/RF2 (io), 19 VSS (power), 20 VDD (power), 21 PWM3H/RE5 (io), 22 PWM3L/RE4 (io), 23 PWM2H/RE3 (io), 24 PWM2L/RE2 (io), 25 PWM1H/RE1 (io), 26 PWM1L/RE0 (io), 27 AVSS (power), 28 AVDD (power)

## DSPIC30F3010-20I/SP
designator U?
High-Performance 16-bit Digital Signal Controller, 24 KB Flash, 1 KB SRAM, 1 KB EEPROM, 28-Pin SPDIP, Industrial Temperature; Published: 29-Jan-2009; DatasheetVersion: revE, Apr-2008; PackageVersion: revBB, Aug-2009; PackageReference: SPDIP300-SP28; Publisher: Altium Limited; PackageDescription: 28-Lead Skinny Plastic Dual In-Line (SP) - 300 mil Body [SPDIP]; Supplier 1: Digi-Key; Supplier Part Number 1: DSPIC30F301020ISP-ND; ComponentLink1Description: Datasheet; ComponentLink1URL: http://ww1.microchip.com/downloads/en/DeviceDoc/70141e.pdf; ComponentLink2Description: Packaging Specification; ComponentLink2URL: http://www.microchip.com/stellent/groups/techpub_sg/documents/packagingspec/en012702.pdf; ComponentLink3Description: Microchip.com Home; ComponentLink3URL: http://www.microchip.com/
footprint SPDIP300-SP28 (DIP, 28-Leads, Row Spacing 7.62mm, Pitch 2.54mm, Body 34.9x6.8mm)
pins: 1 ~{MCLR} (in), 2 EMUD3/AN0/VREF+/CN2/RB0 (io), 3 EMUC3/AN1/VREF-/CN3/RB1 (io), 4 AN2/~{SS1}/CN4/RB2 (io), 5 AN3/INDX/CN5/RB3 (io), 6 AN4/QEA/IC7/CN6/RB4 (io), 7 AN5/QEB/IC8/CN7/RB5 (io), 8 VSS (power), 9 OSC1/CLKI (in), 10 OSC2/CLKO/RC15 (io), 11 EMUD1/SOSCI/T2CK/U1ATX/CN1/RC13 (io), 12 EMUC1/SOSCO/T1CK/U1ARX/CN0/RC14 (io), 13 VDD (power), 14 EMUD2/OC2/IC2/INT2/RD1 (io), 15 EMUC2/OC1/IC1/INT1/RD0 (io), 16 ~{FLTA}/INT0/SCK1/OCFA/RE8 (io), 17 PGD/EMUD/U1TX/SDO1/SCL/RF3 (io), 18 PGC/EMUC/U1RX/SDI1/SDA/RF2 (io), 19 VSS (power), 20 VDD (power), 21 PWM3H/RE5 (io), 22 PWM3L/RE4 (io), 23 PWM2H/RE3 (io), 24 PWM2L/RE2 (io), 25 PWM1H/RE1 (io), 26 PWM1L/RE0 (io), 27 AVSS (power), 28 AVDD (power)